# Altium integrated library STC.IntLib: 85 symbols (part 1 of 2)
Pins are listed as number, name and electrical type; pins without a type are passive.

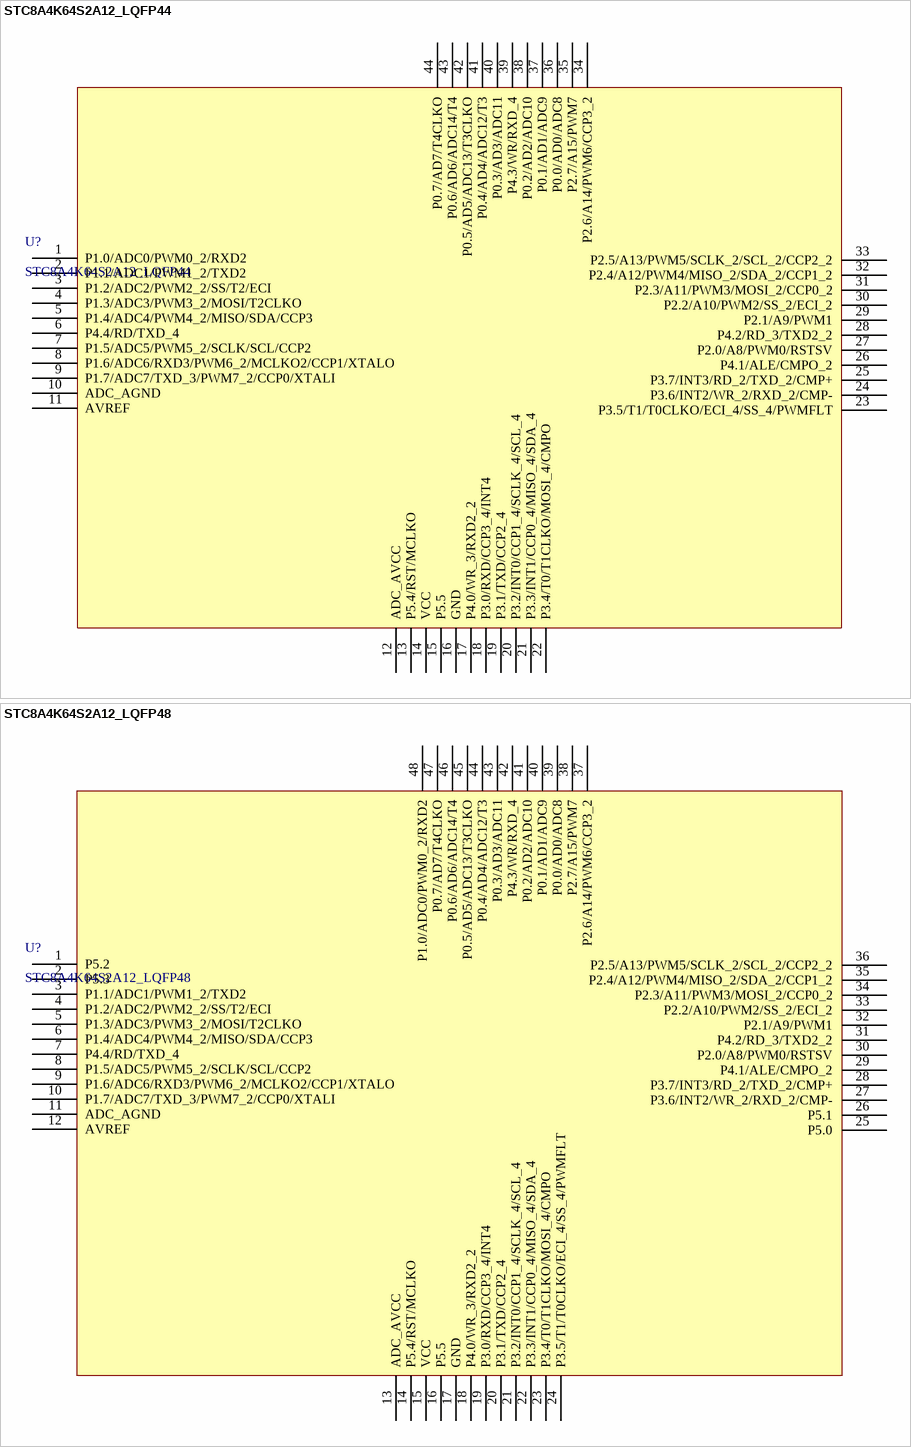
[diagram p0: symbols STC8A4K64S2A12_LQFP44 to STC8A4K64S2A12_LQFP48]

## STC8A4K64S2A12_LQFP44
designator U?
footprint LQFP44
footprint PQFP44
pins: 1 P1.0/ADC0/PWM0_2/RXD2, 2 P1.1/ADC1/PWM1_2/TXD2, 3 P1.2/ADC2/PWM2_2/SS/T2/ECI, 4 P1.3/ADC3/PWM3_2/MOSI/T2CLKO, 5 P1.4/ADC4/PWM4_2/MISO/SDA/CCP3, 6 P4.4/RD/TXD_4, 7 P1.5/ADC5/PWM5_2/SCLK/SCL/CCP2, 8 P1.6/ADC6/RXD3/PWM6_2/MCLKO2/CCP1/XTALO, 9 P1.7/ADC7/TXD_3/PWM7_2/CCP0/XTALI, 10 ADC_AGND, 11 AVREF, 12 ADC_AVCC, 13 P5.4/RST/MCLKO, 14 VCC, 15 P5.5, 16 GND, 17 P4.0/WR_3/RXD2_2, 18 P3.0/RXD/CCP3_4/INT4, 19 P3.1/TXD/CCP2_4, 20 P3.2/INT0/CCP1_4/SCLK_4/SCL_4, 21 P3.3/INT1/CCP0_4/MISO_4/SDA_4, 22 P3.4/T0/T1CLKO/MOSI_4/CMPO, 23 P3.5/T1/T0CLKO/ECI_4/SS_4/PWMFLT, 24 P3.6/INT2/WR_2/RXD_2/CMP-, 25 P3.7/INT3/RD_2/TXD_2/CMP+, 26 P4.1/ALE/CMPO_2, 27 P2.0/A8/PWM0/RSTSV, 28 P4.2/RD_3/TXD2_2, 29 P2.1/A9/PWM1, 30 P2.2/A10/PWM2/SS_2/ECI_2, 31 P2.3/A11/PWM3/MOSI_2/CCP0_2, 32 P2.4/A12/PWM4/MISO_2/SDA_2/CCP1_2, 33 P2.5/A13/PWM5/SCLK_2/SCL_2/CCP2_2, 34 P2.6/A14/PWM6/CCP3_2, 35 P2.7/A15/PWM7, 36 P0.0/AD0/ADC8, 37 P0.1/AD1/ADC9, 38 P0.2/AD2/ADC10, 39 P4.3/WR/RXD_4, 40 P0.3/AD3/ADC11, 41 P0.4/AD4/ADC12/T3, 42 P0.5/AD5/ADC13/T3CLKO, 43 P0.6/AD6/ADC14/T4, 44 P0.7/AD7/T4CLKO

## STC8A4K64S2A12_LQFP48
designator U?
footprint LQFP48
pins: 1 P5.2, 2 P5.3, 3 P1.1/ADC1/PWM1_2/TXD2, 4 P1.2/ADC2/PWM2_2/SS/T2/ECI, 5 P1.3/ADC3/PWM3_2/MOSI/T2CLKO, 6 P1.4/ADC4/PWM4_2/MISO/SDA/CCP3, 7 P4.4/RD/TXD_4, 8 P1.5/ADC5/PWM5_2/SCLK/SCL/CCP2, 9 P1.6/ADC6/RXD3/PWM6_2/MCLKO2/CCP1/XTALO, 10 P1.7/ADC7/TXD_3/PWM7_2/CCP0/XTALI, 11 ADC_AGND, 12 AVREF, 13 ADC_AVCC, 14 P5.4/RST/MCLKO, 15 VCC, 16 P5.5, 17 GND, 18 P4.0/WR_3/RXD2_2, 19 P3.0/RXD/CCP3_4/INT4, 20 P3.1/TXD/CCP2_4, 21 P3.2/INT0/CCP1_4/SCLK_4/SCL_4, 22 P3.3/INT1/CCP0_4/MISO_4/SDA_4, 23 P3.4/T0/T1CLKO/MOSI_4/CMPO, 24 P3.5/T1/T0CLKO/ECI_4/SS_4/PWMFLT, 25 P5.0, 26 P5.1, 27 P3.6/INT2/WR_2/RXD_2/CMP-, 28 P3.7/INT3/RD_2/TXD_2/CMP+, 29 P4.1/ALE/CMPO_2, 30 P2.0/A8/PWM0/RSTSV, 31 P4.2/RD_3/TXD2_2, 32 P2.1/A9/PWM1, 33 P2.2/A10/PWM2/SS_2/ECI_2, 34 P2.3/A11/PWM3/MOSI_2/CCP0_2, 35 P2.4/A12/PWM4/MISO_2/SDA_2/CCP1_2, 36 P2.5/A13/PWM5/SCLK_2/SCL_2/CCP2_2, 37 P2.6/A14/PWM6/CCP3_2, 38 P2.7/A15/PWM7, 39 P0.0/AD0/ADC8, 40 P0.1/AD1/ADC9, 41 P0.2/AD2/ADC10, 42 P4.3/WR/RXD_4, 43 P0.3/AD3/ADC11, 44 P0.4/AD4/ADC12/T3, 45 P0.5/AD5/ADC13/T3CLKO, 46 P0.6/AD6/ADC14/T4, 47 P0.7/AD7/T4CLKO, 48 P1.0/ADC0/PWM0_2/RXD2

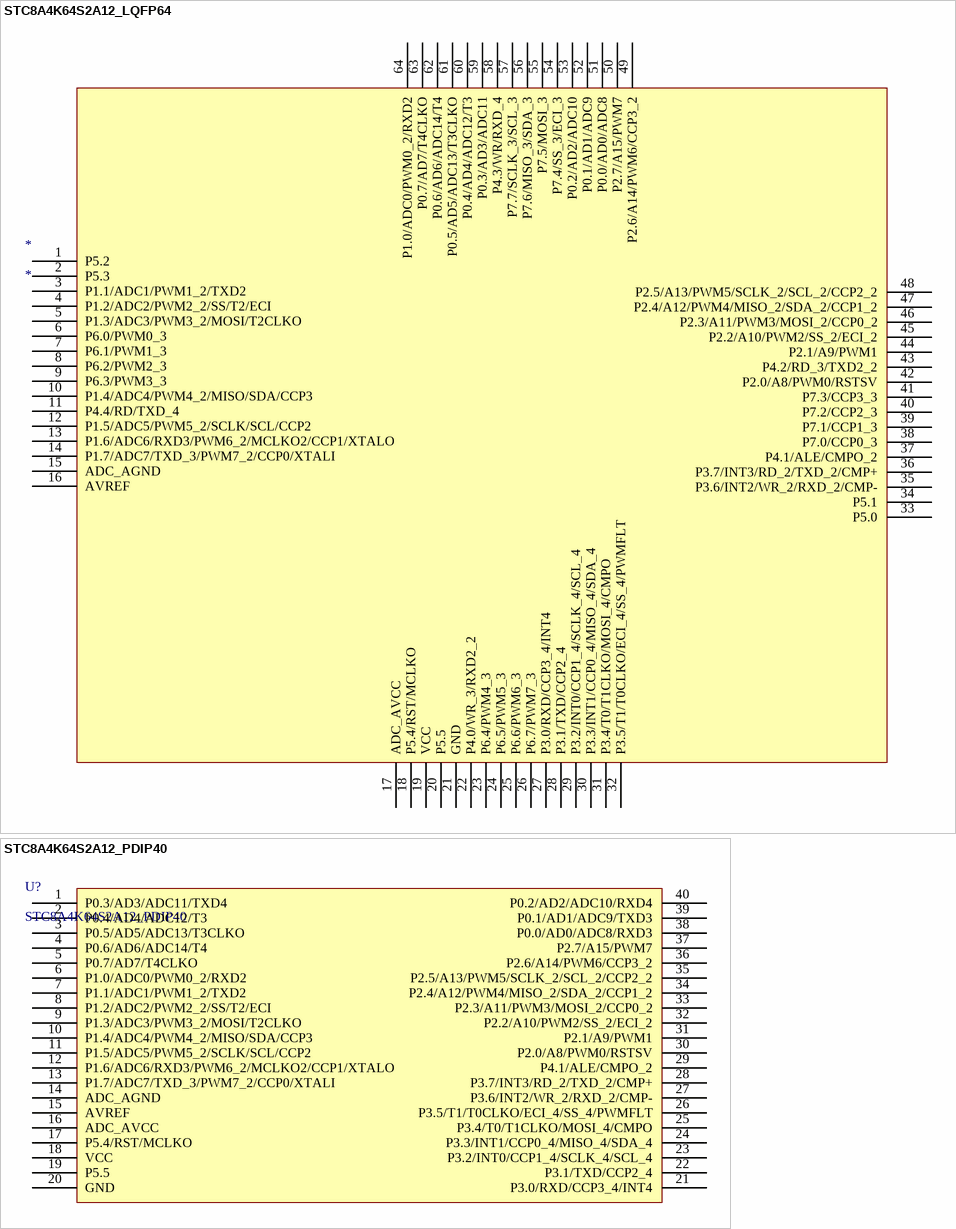
[diagram p1: symbols STC8A4K64S2A12_LQFP64 to STC8A4K64S2A12_PDIP40]

## STC8A4K64S2A12_LQFP64
designator *
footprint LQFP64
pins: 1 P5.2, 2 P5.3, 3 P1.1/ADC1/PWM1_2/TXD2, 4 P1.2/ADC2/PWM2_2/SS/T2/ECI, 5 P1.3/ADC3/PWM3_2/MOSI/T2CLKO, 6 P6.0/PWM0_3, 7 P6.1/PWM1_3, 8 P6.2/PWM2_3, 9 P6.3/PWM3_3, 10 P1.4/ADC4/PWM4_2/MISO/SDA/CCP3, 11 P4.4/RD/TXD_4, 12 P1.5/ADC5/PWM5_2/SCLK/SCL/CCP2, 13 P1.6/ADC6/RXD3/PWM6_2/MCLKO2/CCP1/XTALO, 14 P1.7/ADC7/TXD_3/PWM7_2/CCP0/XTALI, 15 ADC_AGND, 16 AVREF, 17 ADC_AVCC, 18 P5.4/RST/MCLKO, 19 VCC, 20 P5.5, 21 GND, 22 P4.0/WR_3/RXD2_2, 23 P6.4/PWM4_3, 24 P6.5/PWM5_3, 25 P6.6/PWM6_3, 26 P6.7/PWM7_3, 27 P3.0/RXD/CCP3_4/INT4, 28 P3.1/TXD/CCP2_4, 29 P3.2/INT0/CCP1_4/SCLK_4/SCL_4, 30 P3.3/INT1/CCP0_4/MISO_4/SDA_4, 31 P3.4/T0/T1CLKO/MOSI_4/CMPO, 32 P3.5/T1/T0CLKO/ECI_4/SS_4/PWMFLT, 33 P5.0, 34 P5.1, 35 P3.6/INT2/WR_2/RXD_2/CMP-, 36 P3.7/INT3/RD_2/TXD_2/CMP+, 37 P4.1/ALE/CMPO_2, 38 P7.0/CCP0_3, 39 P7.1/CCP1_3, 40 P7.2/CCP2_3, 41 P7.3/CCP3_3, 42 P2.0/A8/PWM0/RSTSV, 43 P4.2/RD_3/TXD2_2, 44 P2.1/A9/PWM1, 45 P2.2/A10/PWM2/SS_2/ECI_2, 46 P2.3/A11/PWM3/MOSI_2/CCP0_2, 47 P2.4/A12/PWM4/MISO_2/SDA_2/CCP1_2, 48 P2.5/A13/PWM5/SCLK_2/SCL_2/CCP2_2, 49 P2.6/A14/PWM6/CCP3_2, 50 P2.7/A15/PWM7, 51 P0.0/AD0/ADC8, 52 P0.1/AD1/ADC9, 53 P0.2/AD2/ADC10, 54 P7.4/SS_3/ECI_3, 55 P7.5/MOSI_3, 56 P7.6/MISO_3/SDA_3, 57 P7.7/SCLK_3/SCL_3, 58 P4.3/WR/RXD_4, 59 P0.3/AD3/ADC11, 60 P0.4/AD4/ADC12/T3, 61 P0.5/AD5/ADC13/T3CLKO, 62 P0.6/AD6/ADC14/T4, 63 P0.7/AD7/T4CLKO, 64 P1.0/ADC0/PWM0_2/RXD2

## STC8A4K64S2A12_PDIP40
designator U?
footprint DIP40
pins: 1 P0.3/AD3/ADC11/TXD4, 2 P0.4/AD4/ADC12/T3, 3 P0.5/AD5/ADC13/T3CLKO, 4 P0.6/AD6/ADC14/T4, 5 P0.7/AD7/T4CLKO, 6 P1.0/ADC0/PWM0_2/RXD2, 7 P1.1/ADC1/PWM1_2/TXD2, 8 P1.2/ADC2/PWM2_2/SS/T2/ECI, 9 P1.3/ADC3/PWM3_2/MOSI/T2CLKO, 10 P1.4/ADC4/PWM4_2/MISO/SDA/CCP3, 11 P1.5/ADC5/PWM5_2/SCLK/SCL/CCP2, 12 P1.6/ADC6/RXD3/PWM6_2/MCLKO2/CCP1/XTALO, 13 P1.7/ADC7/TXD_3/PWM7_2/CCP0/XTALI, 14 ADC_AGND, 15 AVREF, 16 ADC_AVCC, 17 P5.4/RST/MCLKO, 18 VCC, 19 P5.5, 20 GND, 21 P3.0/RXD/CCP3_4/INT4, 22 P3.1/TXD/CCP2_4, 23 P3.2/INT0/CCP1_4/SCLK_4/SCL_4, 24 P3.3/INT1/CCP0_4/MISO_4/SDA_4, 25 P3.4/T0/T1CLKO/MOSI_4/CMPO, 26 P3.5/T1/T0CLKO/ECI_4/SS_4/PWMFLT, 27 P3.6/INT2/WR_2/RXD_2/CMP-, 28 P3.7/INT3/RD_2/TXD_2/CMP+, 29 P4.1/ALE/CMPO_2, 30 P2.0/A8/PWM0/RSTSV, 31 P2.1/A9/PWM1, 32 P2.2/A10/PWM2/SS_2/ECI_2, 33 P2.3/A11/PWM3/MOSI_2/CCP0_2, 34 P2.4/A12/PWM4/MISO_2/SDA_2/CCP1_2, 35 P2.5/A13/PWM5/SCLK_2/SCL_2/CCP2_2, 36 P2.6/A14/PWM6/CCP3_2, 37 P2.7/A15/PWM7, 38 P0.0/AD0/ADC8/RXD3, 39 P0.1/AD1/ADC9/TXD3, 40 P0.2/AD2/ADC10/RXD4

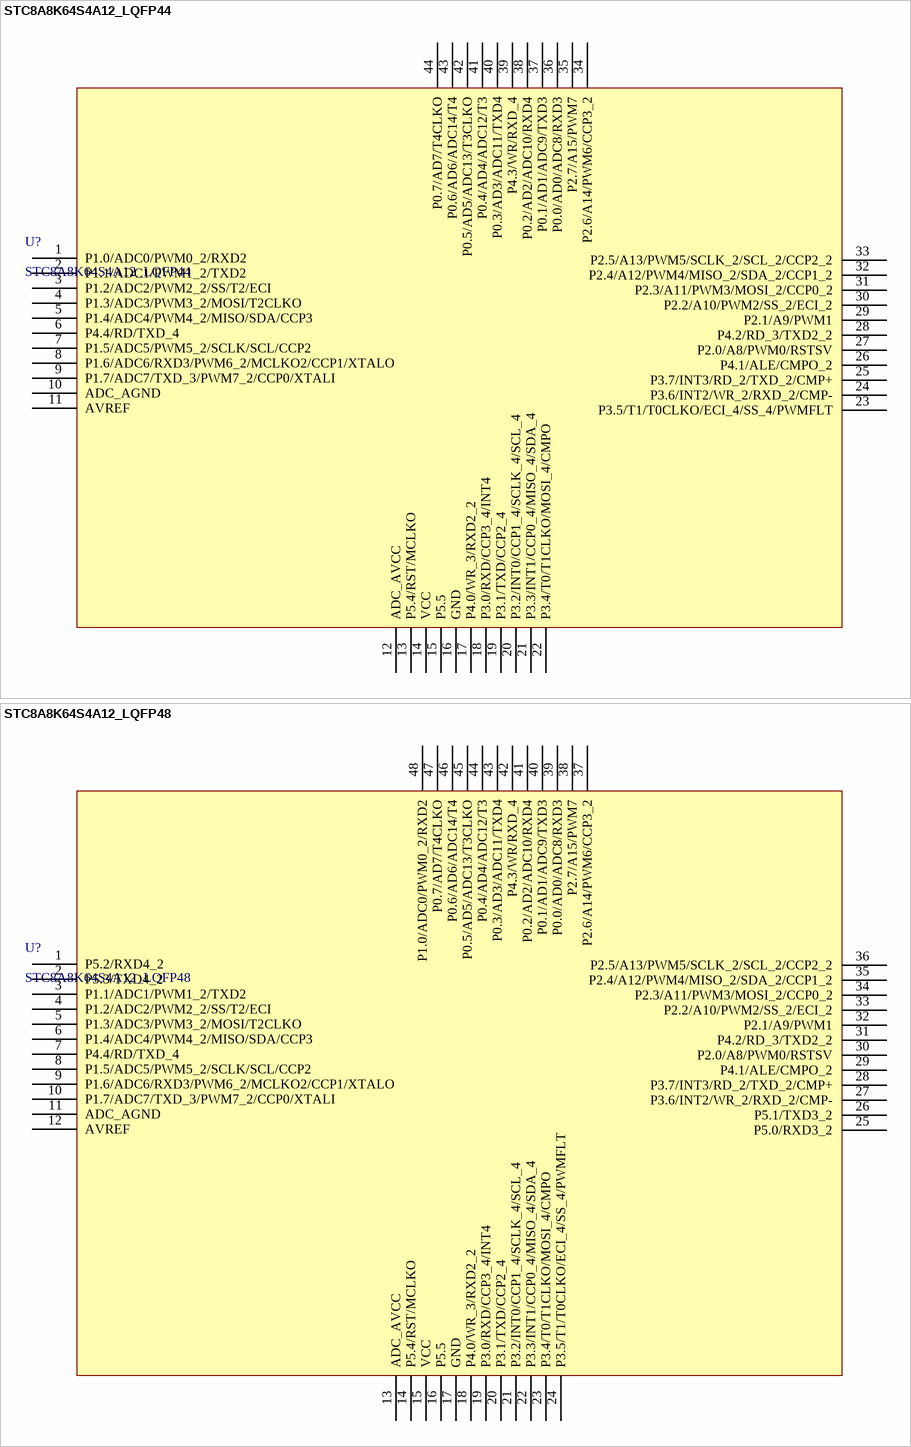
[diagram p2: symbols STC8A8K64S4A12_LQFP44 to STC8A8K64S4A12_LQFP48]

## STC8A8K64S4A12_LQFP44
designator U?
footprint LQFP44
footprint PQFP44
pins: 1 P1.0/ADC0/PWM0_2/RXD2, 2 P1.1/ADC1/PWM1_2/TXD2, 3 P1.2/ADC2/PWM2_2/SS/T2/ECI, 4 P1.3/ADC3/PWM3_2/MOSI/T2CLKO, 5 P1.4/ADC4/PWM4_2/MISO/SDA/CCP3, 6 P4.4/RD/TXD_4, 7 P1.5/ADC5/PWM5_2/SCLK/SCL/CCP2, 8 P1.6/ADC6/RXD3/PWM6_2/MCLKO2/CCP1/XTALO, 9 P1.7/ADC7/TXD_3/PWM7_2/CCP0/XTALI, 10 ADC_AGND, 11 AVREF, 12 ADC_AVCC, 13 P5.4/RST/MCLKO, 14 VCC, 15 P5.5, 16 GND, 17 P4.0/WR_3/RXD2_2, 18 P3.0/RXD/CCP3_4/INT4, 19 P3.1/TXD/CCP2_4, 20 P3.2/INT0/CCP1_4/SCLK_4/SCL_4, 21 P3.3/INT1/CCP0_4/MISO_4/SDA_4, 22 P3.4/T0/T1CLKO/MOSI_4/CMPO, 23 P3.5/T1/T0CLKO/ECI_4/SS_4/PWMFLT, 24 P3.6/INT2/WR_2/RXD_2/CMP-, 25 P3.7/INT3/RD_2/TXD_2/CMP+, 26 P4.1/ALE/CMPO_2, 27 P2.0/A8/PWM0/RSTSV, 28 P4.2/RD_3/TXD2_2, 29 P2.1/A9/PWM1, 30 P2.2/A10/PWM2/SS_2/ECI_2, 31 P2.3/A11/PWM3/MOSI_2/CCP0_2, 32 P2.4/A12/PWM4/MISO_2/SDA_2/CCP1_2, 33 P2.5/A13/PWM5/SCLK_2/SCL_2/CCP2_2, 34 P2.6/A14/PWM6/CCP3_2, 35 P2.7/A15/PWM7, 36 P0.0/AD0/ADC8/RXD3, 37 P0.1/AD1/ADC9/TXD3, 38 P0.2/AD2/ADC10/RXD4, 39 P4.3/WR/RXD_4, 40 P0.3/AD3/ADC11/TXD4, 41 P0.4/AD4/ADC12/T3, 42 P0.5/AD5/ADC13/T3CLKO, 43 P0.6/AD6/ADC14/T4, 44 P0.7/AD7/T4CLKO

## STC8A8K64S4A12_LQFP48
designator U?
footprint LQFP48
pins: 1 P5.2/RXD4_2, 2 P5.3/TXD4_2, 3 P1.1/ADC1/PWM1_2/TXD2, 4 P1.2/ADC2/PWM2_2/SS/T2/ECI, 5 P1.3/ADC3/PWM3_2/MOSI/T2CLKO, 6 P1.4/ADC4/PWM4_2/MISO/SDA/CCP3, 7 P4.4/RD/TXD_4, 8 P1.5/ADC5/PWM5_2/SCLK/SCL/CCP2, 9 P1.6/ADC6/RXD3/PWM6_2/MCLKO2/CCP1/XTALO, 10 P1.7/ADC7/TXD_3/PWM7_2/CCP0/XTALI, 11 ADC_AGND, 12 AVREF, 13 ADC_AVCC, 14 P5.4/RST/MCLKO, 15 VCC, 16 P5.5, 17 GND, 18 P4.0/WR_3/RXD2_2, 19 P3.0/RXD/CCP3_4/INT4, 20 P3.1/TXD/CCP2_4, 21 P3.2/INT0/CCP1_4/SCLK_4/SCL_4, 22 P3.3/INT1/CCP0_4/MISO_4/SDA_4, 23 P3.4/T0/T1CLKO/MOSI_4/CMPO, 24 P3.5/T1/T0CLKO/ECI_4/SS_4/PWMFLT, 25 P5.0/RXD3_2, 26 P5.1/TXD3_2, 27 P3.6/INT2/WR_2/RXD_2/CMP-, 28 P3.7/INT3/RD_2/TXD_2/CMP+, 29 P4.1/ALE/CMPO_2, 30 P2.0/A8/PWM0/RSTSV, 31 P4.2/RD_3/TXD2_2, 32 P2.1/A9/PWM1, 33 P2.2/A10/PWM2/SS_2/ECI_2, 34 P2.3/A11/PWM3/MOSI_2/CCP0_2, 35 P2.4/A12/PWM4/MISO_2/SDA_2/CCP1_2, 36 P2.5/A13/PWM5/SCLK_2/SCL_2/CCP2_2, 37 P2.6/A14/PWM6/CCP3_2, 38 P2.7/A15/PWM7, 39 P0.0/AD0/ADC8/RXD3, 40 P0.1/AD1/ADC9/TXD3, 41 P0.2/AD2/ADC10/RXD4, 42 P4.3/WR/RXD_4, 43 P0.3/AD3/ADC11/TXD4, 44 P0.4/AD4/ADC12/T3, 45 P0.5/AD5/ADC13/T3CLKO, 46 P0.6/AD6/ADC14/T4, 47 P0.7/AD7/T4CLKO, 48 P1.0/ADC0/PWM0_2/RXD2

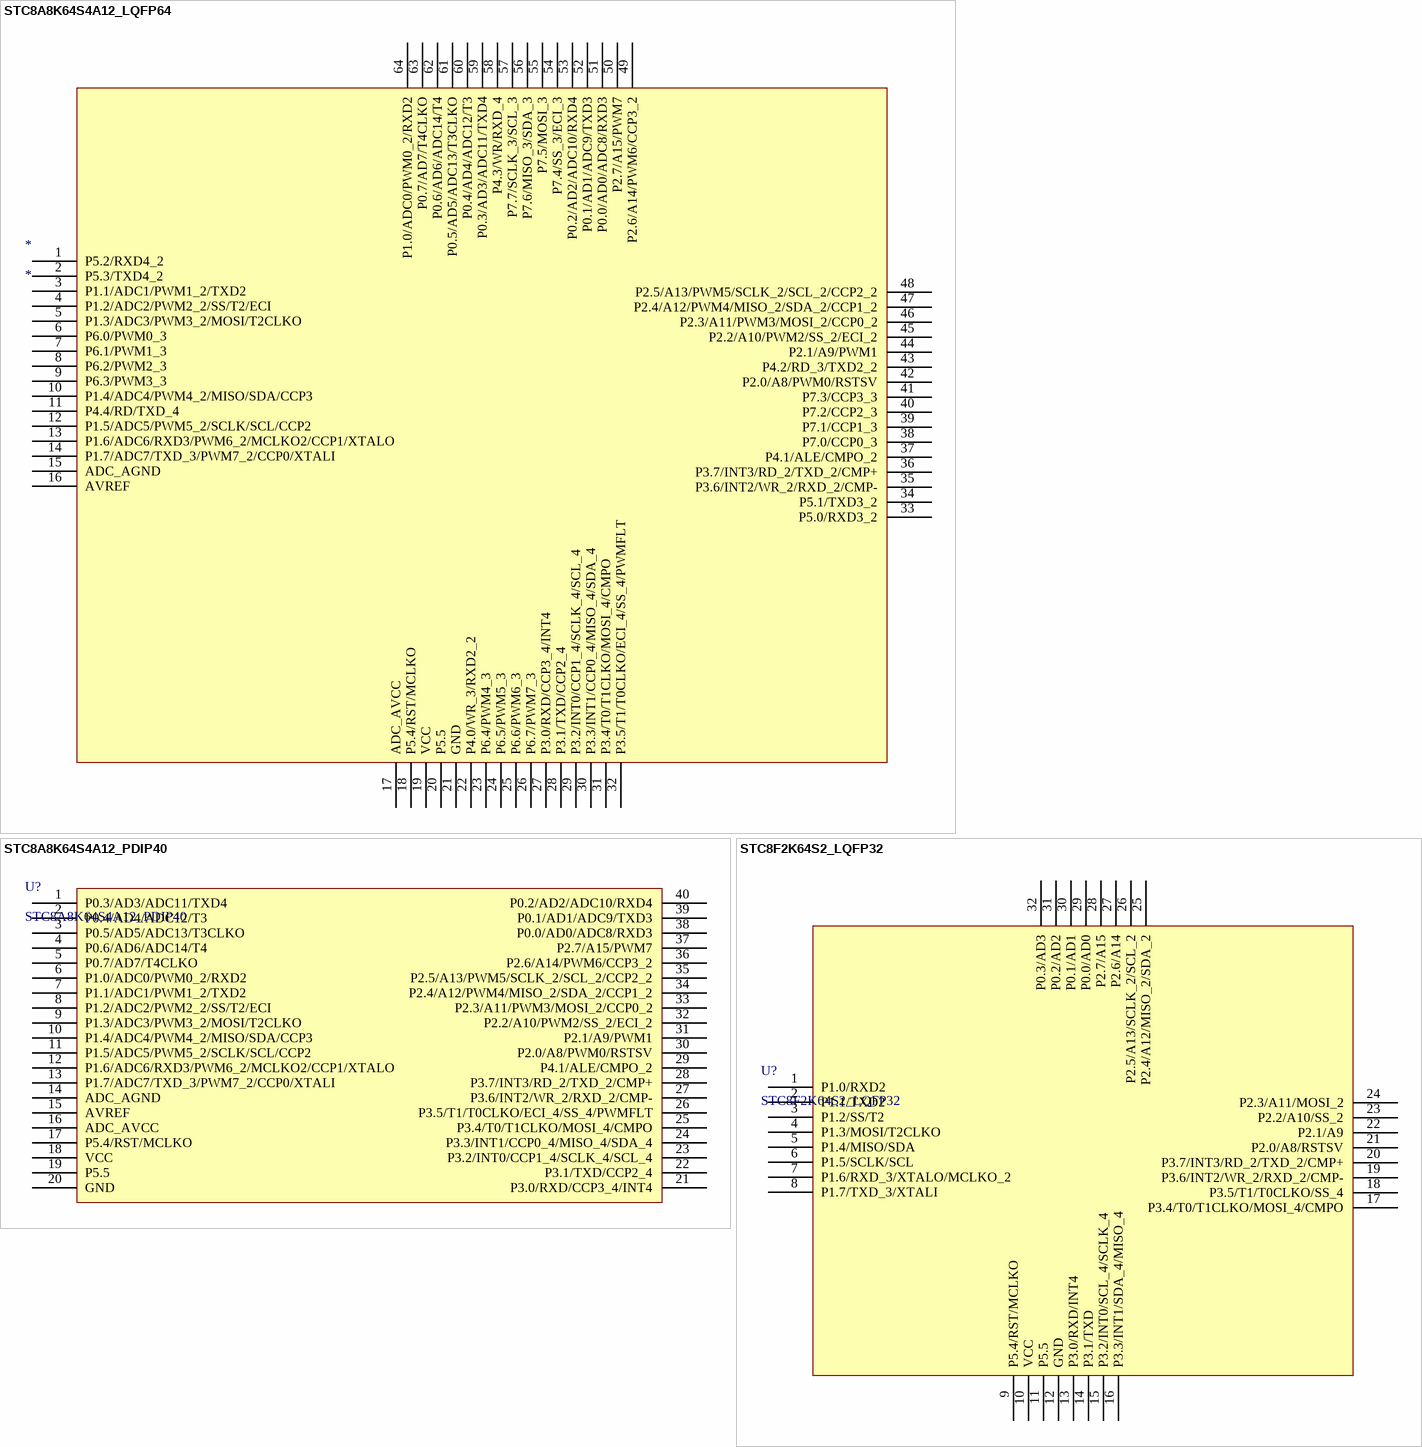
[diagram p3: symbols STC8A8K64S4A12_LQFP64 to STC8F2K64S2_LQFP32]

## STC8A8K64S4A12_LQFP64
designator *
footprint LQFP64
pins: 1 P5.2/RXD4_2, 2 P5.3/TXD4_2, 3 P1.1/ADC1/PWM1_2/TXD2, 4 P1.2/ADC2/PWM2_2/SS/T2/ECI, 5 P1.3/ADC3/PWM3_2/MOSI/T2CLKO, 6 P6.0/PWM0_3, 7 P6.1/PWM1_3, 8 P6.2/PWM2_3, 9 P6.3/PWM3_3, 10 P1.4/ADC4/PWM4_2/MISO/SDA/CCP3, 11 P4.4/RD/TXD_4, 12 P1.5/ADC5/PWM5_2/SCLK/SCL/CCP2, 13 P1.6/ADC6/RXD3/PWM6_2/MCLKO2/CCP1/XTALO, 14 P1.7/ADC7/TXD_3/PWM7_2/CCP0/XTALI, 15 ADC_AGND, 16 AVREF, 17 ADC_AVCC, 18 P5.4/RST/MCLKO, 19 VCC, 20 P5.5, 21 GND, 22 P4.0/WR_3/RXD2_2, 23 P6.4/PWM4_3, 24 P6.5/PWM5_3, 25 P6.6/PWM6_3, 26 P6.7/PWM7_3, 27 P3.0/RXD/CCP3_4/INT4, 28 P3.1/TXD/CCP2_4, 29 P3.2/INT0/CCP1_4/SCLK_4/SCL_4, 30 P3.3/INT1/CCP0_4/MISO_4/SDA_4, 31 P3.4/T0/T1CLKO/MOSI_4/CMPO, 32 P3.5/T1/T0CLKO/ECI_4/SS_4/PWMFLT, 33 P5.0/RXD3_2, 34 P5.1/TXD3_2, 35 P3.6/INT2/WR_2/RXD_2/CMP-, 36 P3.7/INT3/RD_2/TXD_2/CMP+, 37 P4.1/ALE/CMPO_2, 38 P7.0/CCP0_3, 39 P7.1/CCP1_3, 40 P7.2/CCP2_3, 41 P7.3/CCP3_3, 42 P2.0/A8/PWM0/RSTSV, 43 P4.2/RD_3/TXD2_2, 44 P2.1/A9/PWM1, 45 P2.2/A10/PWM2/SS_2/ECI_2, 46 P2.3/A11/PWM3/MOSI_2/CCP0_2, 47 P2.4/A12/PWM4/MISO_2/SDA_2/CCP1_2, 48 P2.5/A13/PWM5/SCLK_2/SCL_2/CCP2_2, 49 P2.6/A14/PWM6/CCP3_2, 50 P2.7/A15/PWM7, 51 P0.0/AD0/ADC8/RXD3, 52 P0.1/AD1/ADC9/TXD3, 53 P0.2/AD2/ADC10/RXD4, 54 P7.4/SS_3/ECI_3, 55 P7.5/MOSI_3, 56 P7.6/MISO_3/SDA_3, 57 P7.7/SCLK_3/SCL_3, 58 P4.3/WR/RXD_4, 59 P0.3/AD3/ADC11/TXD4, 60 P0.4/AD4/ADC12/T3, 61 P0.5/AD5/ADC13/T3CLKO, 62 P0.6/AD6/ADC14/T4, 63 P0.7/AD7/T4CLKO, 64 P1.0/ADC0/PWM0_2/RXD2

## STC8A8K64S4A12_PDIP40
designator U?
footprint DIP40
pins: 1 P0.3/AD3/ADC11/TXD4, 2 P0.4/AD4/ADC12/T3, 3 P0.5/AD5/ADC13/T3CLKO, 4 P0.6/AD6/ADC14/T4, 5 P0.7/AD7/T4CLKO, 6 P1.0/ADC0/PWM0_2/RXD2, 7 P1.1/ADC1/PWM1_2/TXD2, 8 P1.2/ADC2/PWM2_2/SS/T2/ECI, 9 P1.3/ADC3/PWM3_2/MOSI/T2CLKO, 10 P1.4/ADC4/PWM4_2/MISO/SDA/CCP3, 11 P1.5/ADC5/PWM5_2/SCLK/SCL/CCP2, 12 P1.6/ADC6/RXD3/PWM6_2/MCLKO2/CCP1/XTALO, 13 P1.7/ADC7/TXD_3/PWM7_2/CCP0/XTALI, 14 ADC_AGND, 15 AVREF, 16 ADC_AVCC, 17 P5.4/RST/MCLKO, 18 VCC, 19 P5.5, 20 GND, 21 P3.0/RXD/CCP3_4/INT4, 22 P3.1/TXD/CCP2_4, 23 P3.2/INT0/CCP1_4/SCLK_4/SCL_4, 24 P3.3/INT1/CCP0_4/MISO_4/SDA_4, 25 P3.4/T0/T1CLKO/MOSI_4/CMPO, 26 P3.5/T1/T0CLKO/ECI_4/SS_4/PWMFLT, 27 P3.6/INT2/WR_2/RXD_2/CMP-, 28 P3.7/INT3/RD_2/TXD_2/CMP+, 29 P4.1/ALE/CMPO_2, 30 P2.0/A8/PWM0/RSTSV, 31 P2.1/A9/PWM1, 32 P2.2/A10/PWM2/SS_2/ECI_2, 33 P2.3/A11/PWM3/MOSI_2/CCP0_2, 34 P2.4/A12/PWM4/MISO_2/SDA_2/CCP1_2, 35 P2.5/A13/PWM5/SCLK_2/SCL_2/CCP2_2, 36 P2.6/A14/PWM6/CCP3_2, 37 P2.7/A15/PWM7, 38 P0.0/AD0/ADC8/RXD3, 39 P0.1/AD1/ADC9/TXD3, 40 P0.2/AD2/ADC10/RXD4

## STC8F2K64S2_LQFP32
designator U?
footprint LQFP32
pins: 1 P1.0/RXD2, 2 P1.1/TXD2, 3 P1.2/SS/T2, 4 P1.3/MOSI/T2CLKO, 5 P1.4/MISO/SDA, 6 P1.5/SCLK/SCL, 7 P1.6/RXD_3/XTALO/MCLKO_2, 8 P1.7/TXD_3/XTALI, 9 P5.4/RST/MCLKO, 10 VCC, 11 P5.5, 12 GND, 13 P3.0/RXD/INT4, 14 P3.1/TXD, 15 P3.2/INT0/SCL_4/SCLK_4, 16 P3.3/INT1/SDA_4/MISO_4, 17 P3.4/T0/T1CLKO/MOSI_4/CMPO, 18 P3.5/T1/T0CLKO/SS_4, 19 P3.6/INT2/WR_2/RXD_2/CMP-, 20 P3.7/INT3/RD_2/TXD_2/CMP+, 21 P2.0/A8/RSTSV, 22 P2.1/A9, 23 P2.2/A10/SS_2, 24 P2.3/A11/MOSI_2, 25 P2.4/A12/MISO_2/SDA_2, 26 P2.5/A13/SCLK_2/SCL_2, 27 P2.6/A14, 28 P2.7/A15, 29 P0.0/AD0, 30 P0.1/AD1, 31 P0.2/AD2, 32 P0.3/AD3

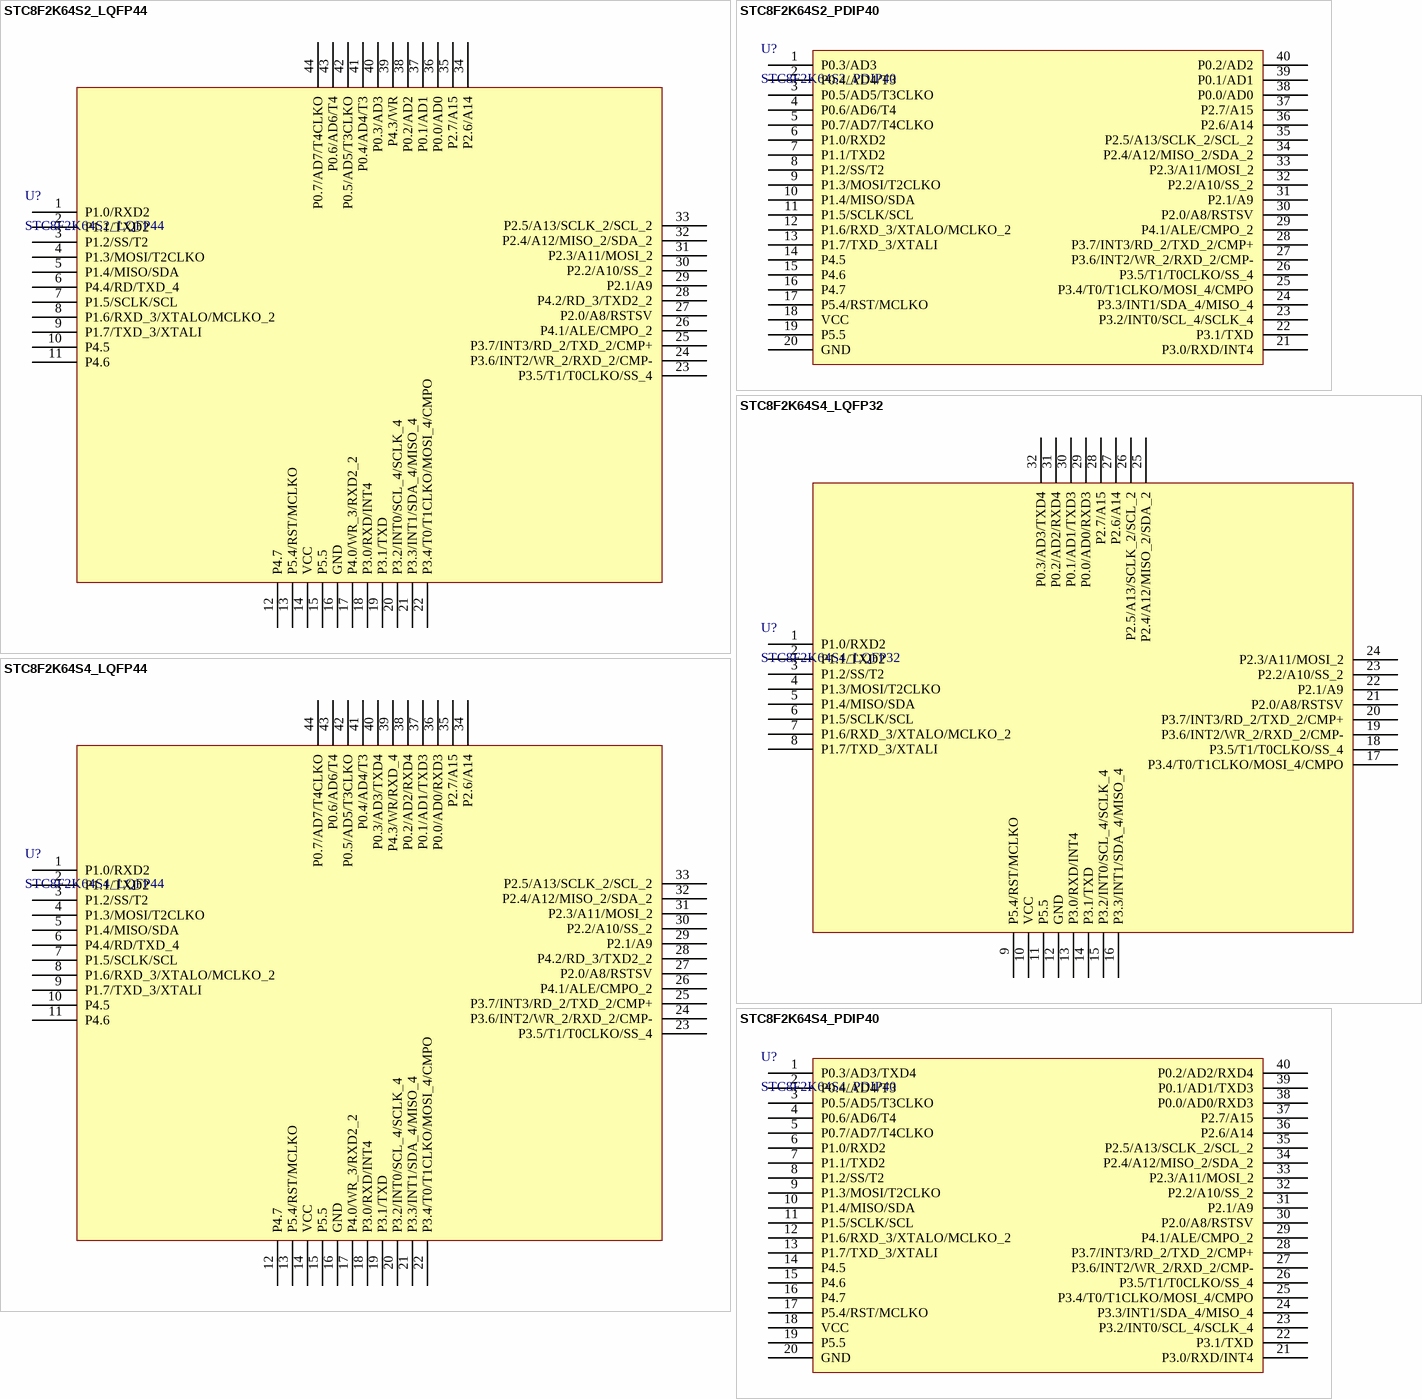
[diagram p4: symbols STC8F2K64S2_LQFP44 to STC8F2K64S4_PDIP40]

## STC8F2K64S2_LQFP44
designator U?
footprint LQFP44
footprint PQFP44
pins: 1 P1.0/RXD2, 2 P1.1/TXD2, 3 P1.2/SS/T2, 4 P1.3/MOSI/T2CLKO, 5 P1.4/MISO/SDA, 6 P4.4/RD/TXD_4, 7 P1.5/SCLK/SCL, 8 P1.6/RXD_3/XTALO/MCLKO_2, 9 P1.7/TXD_3/XTALI, 10 P4.5, 11 P4.6, 12 P4.7, 13 P5.4/RST/MCLKO, 14 VCC, 15 P5.5, 16 GND, 17 P4.0/WR_3/RXD2_2, 18 P3.0/RXD/INT4, 19 P3.1/TXD, 20 P3.2/INT0/SCL_4/SCLK_4, 21 P3.3/INT1/SDA_4/MISO_4, 22 P3.4/T0/T1CLKO/MOSI_4/CMPO, 23 P3.5/T1/T0CLKO/SS_4, 24 P3.6/INT2/WR_2/RXD_2/CMP-, 25 P3.7/INT3/RD_2/TXD_2/CMP+, 26 P4.1/ALE/CMPO_2, 27 P2.0/A8/RSTSV, 28 P4.2/RD_3/TXD2_2, 29 P2.1/A9, 30 P2.2/A10/SS_2, 31 P2.3/A11/MOSI_2, 32 P2.4/A12/MISO_2/SDA_2, 33 P2.5/A13/SCLK_2/SCL_2, 34 P2.6/A14, 35 P2.7/A15, 36 P0.0/AD0, 37 P0.1/AD1, 38 P0.2/AD2, 39 P4.3/WR, 40 P0.3/AD3, 41 P0.4/AD4/T3, 42 P0.5/AD5/T3CLKO, 43 P0.6/AD6/T4, 44 P0.7/AD7/T4CLKO

## STC8F2K64S2_PDIP40
designator U?
footprint DIP40
pins: 1 P0.3/AD3, 2 P0.4/AD4/T3, 3 P0.5/AD5/T3CLKO, 4 P0.6/AD6/T4, 5 P0.7/AD7/T4CLKO, 6 P1.0/RXD2, 7 P1.1/TXD2, 8 P1.2/SS/T2, 9 P1.3/MOSI/T2CLKO, 10 P1.4/MISO/SDA, 11 P1.5/SCLK/SCL, 12 P1.6/RXD_3/XTALO/MCLKO_2, 13 P1.7/TXD_3/XTALI, 14 P4.5, 15 P4.6, 16 P4.7, 17 P5.4/RST/MCLKO, 18 VCC, 19 P5.5, 20 GND, 21 P3.0/RXD/INT4, 22 P3.1/TXD, 23 P3.2/INT0/SCL_4/SCLK_4, 24 P3.3/INT1/SDA_4/MISO_4, 25 P3.4/T0/T1CLKO/MOSI_4/CMPO, 26 P3.5/T1/T0CLKO/SS_4, 27 P3.6/INT2/WR_2/RXD_2/CMP-, 28 P3.7/INT3/RD_2/TXD_2/CMP+, 29 P4.1/ALE/CMPO_2, 30 P2.0/A8/RSTSV, 31 P2.1/A9, 32 P2.2/A10/SS_2, 33 P2.3/A11/MOSI_2, 34 P2.4/A12/MISO_2/SDA_2, 35 P2.5/A13/SCLK_2/SCL_2, 36 P2.6/A14, 37 P2.7/A15, 38 P0.0/AD0, 39 P0.1/AD1, 40 P0.2/AD2

## STC8F2K64S4_LQFP32
designator U?
footprint LQFP32
pins: 1 P1.0/RXD2, 2 P1.1/TXD2, 3 P1.2/SS/T2, 4 P1.3/MOSI/T2CLKO, 5 P1.4/MISO/SDA, 6 P1.5/SCLK/SCL, 7 P1.6/RXD_3/XTALO/MCLKO_2, 8 P1.7/TXD_3/XTALI, 9 P5.4/RST/MCLKO, 10 VCC, 11 P5.5, 12 GND, 13 P3.0/RXD/INT4, 14 P3.1/TXD, 15 P3.2/INT0/SCL_4/SCLK_4, 16 P3.3/INT1/SDA_4/MISO_4, 17 P3.4/T0/T1CLKO/MOSI_4/CMPO, 18 P3.5/T1/T0CLKO/SS_4, 19 P3.6/INT2/WR_2/RXD_2/CMP-, 20 P3.7/INT3/RD_2/TXD_2/CMP+, 21 P2.0/A8/RSTSV, 22 P2.1/A9, 23 P2.2/A10/SS_2, 24 P2.3/A11/MOSI_2, 25 P2.4/A12/MISO_2/SDA_2, 26 P2.5/A13/SCLK_2/SCL_2, 27 P2.6/A14, 28 P2.7/A15, 29 P0.0/AD0/RXD3, 30 P0.1/AD1/TXD3, 31 P0.2/AD2/RXD4, 32 P0.3/AD3/TXD4

## STC8F2K64S4_LQFP44
designator U?
footprint LQFP44
footprint PQFP44
pins: 1 P1.0/RXD2, 2 P1.1/TXD2, 3 P1.2/SS/T2, 4 P1.3/MOSI/T2CLKO, 5 P1.4/MISO/SDA, 6 P4.4/RD/TXD_4, 7 P1.5/SCLK/SCL, 8 P1.6/RXD_3/XTALO/MCLKO_2, 9 P1.7/TXD_3/XTALI, 10 P4.5, 11 P4.6, 12 P4.7, 13 P5.4/RST/MCLKO, 14 VCC, 15 P5.5, 16 GND, 17 P4.0/WR_3/RXD2_2, 18 P3.0/RXD/INT4, 19 P3.1/TXD, 20 P3.2/INT0/SCL_4/SCLK_4, 21 P3.3/INT1/SDA_4/MISO_4, 22 P3.4/T0/T1CLKO/MOSI_4/CMPO, 23 P3.5/T1/T0CLKO/SS_4, 24 P3.6/INT2/WR_2/RXD_2/CMP-, 25 P3.7/INT3/RD_2/TXD_2/CMP+, 26 P4.1/ALE/CMPO_2, 27 P2.0/A8/RSTSV, 28 P4.2/RD_3/TXD2_2, 29 P2.1/A9, 30 P2.2/A10/SS_2, 31 P2.3/A11/MOSI_2, 32 P2.4/A12/MISO_2/SDA_2, 33 P2.5/A13/SCLK_2/SCL_2, 34 P2.6/A14, 35 P2.7/A15, 36 P0.0/AD0/RXD3, 37 P0.1/AD1/TXD3, 38 P0.2/AD2/RXD4, 39 P4.3/WR/RXD_4, 40 P0.3/AD3/TXD4, 41 P0.4/AD4/T3, 42 P0.5/AD5/T3CLKO, 43 P0.6/AD6/T4, 44 P0.7/AD7/T4CLKO

## STC8F2K64S4_PDIP40
designator U?
footprint DIP40
pins: 1 P0.3/AD3/TXD4, 2 P0.4/AD4/T3, 3 P0.5/AD5/T3CLKO, 4 P0.6/AD6/T4, 5 P0.7/AD7/T4CLKO, 6 P1.0/RXD2, 7 P1.1/TXD2, 8 P1.2/SS/T2, 9 P1.3/MOSI/T2CLKO, 10 P1.4/MISO/SDA, 11 P1.5/SCLK/SCL, 12 P1.6/RXD_3/XTALO/MCLKO_2, 13 P1.7/TXD_3/XTALI, 14 P4.5, 15 P4.6, 16 P4.7, 17 P5.4/RST/MCLKO, 18 VCC, 19 P5.5, 20 GND, 21 P3.0/RXD/INT4, 22 P3.1/TXD, 23 P3.2/INT0/SCL_4/SCLK_4, 24 P3.3/INT1/SDA_4/MISO_4, 25 P3.4/T0/T1CLKO/MOSI_4/CMPO, 26 P3.5/T1/T0CLKO/SS_4, 27 P3.6/INT2/WR_2/RXD_2/CMP-, 28 P3.7/INT3/RD_2/TXD_2/CMP+, 29 P4.1/ALE/CMPO_2, 30 P2.0/A8/RSTSV, 31 P2.1/A9, 32 P2.2/A10/SS_2, 33 P2.3/A11/MOSI_2, 34 P2.4/A12/MISO_2/SDA_2, 35 P2.5/A13/SCLK_2/SCL_2, 36 P2.6/A14, 37 P2.7/A15, 38 P0.0/AD0/RXD3, 39 P0.1/AD1/TXD3, 40 P0.2/AD2/RXD4

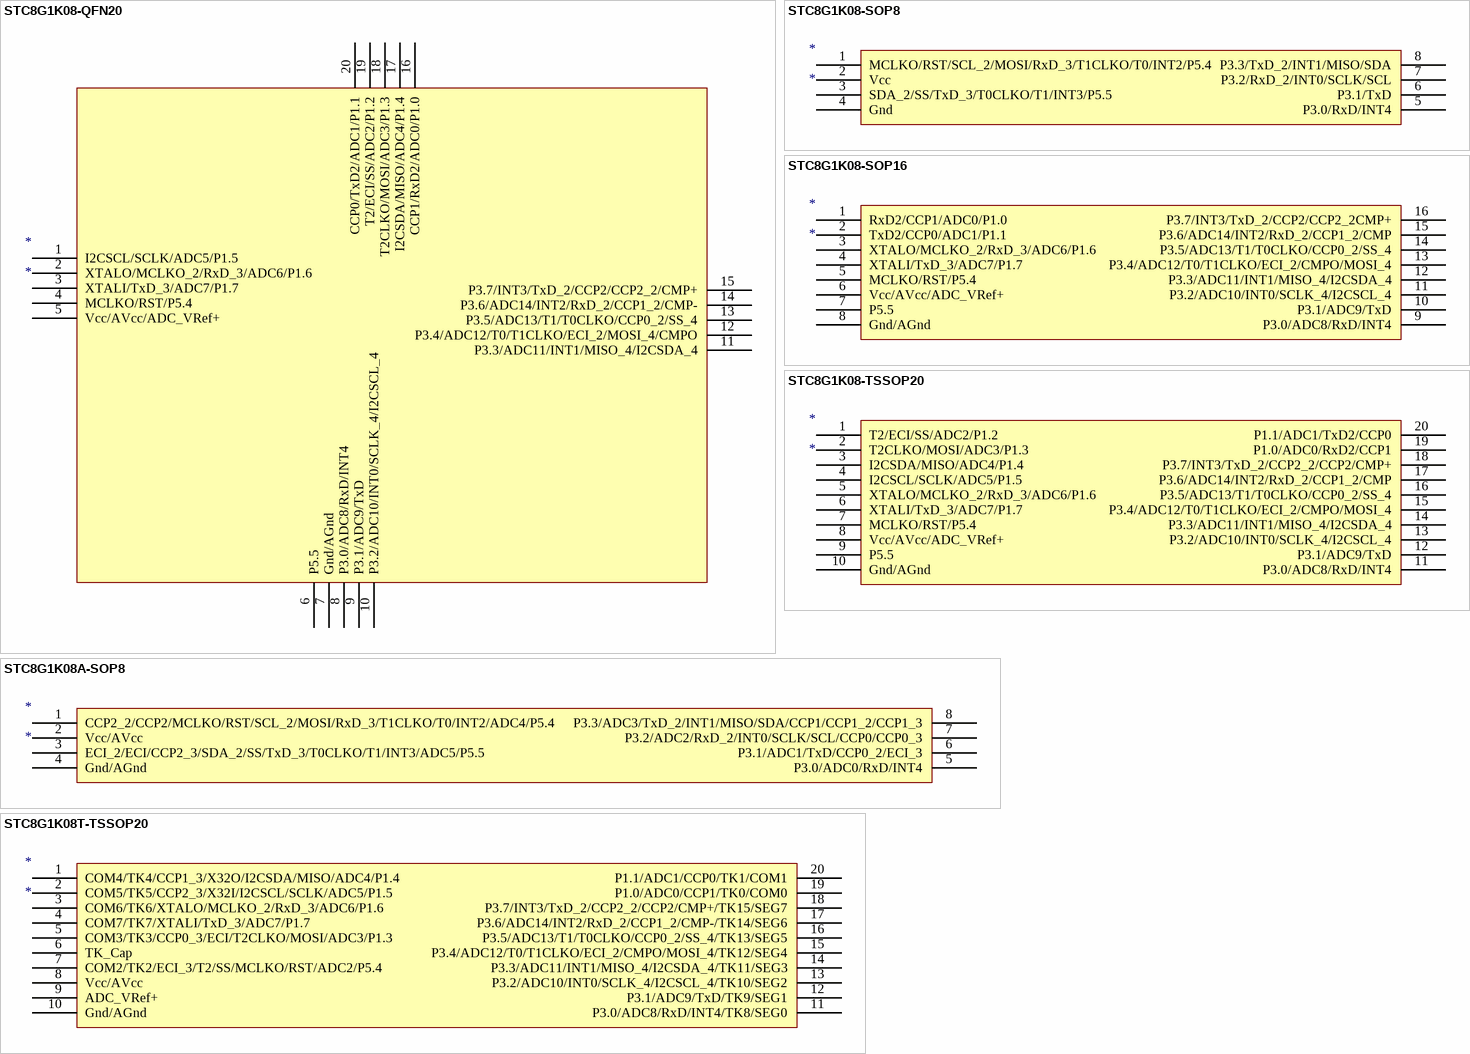
[diagram p5: symbols STC8G1K08-QFN20 to STC8G1K08T-TSSOP20]

## STC8G1K08-QFN20
designator *
footprint QFN20 (Footprint not found)
pins: 1 I2CSCL/SCLK/ADC5/P1.5, 2 XTALO/MCLKO_2/RxD_3/ADC6/P1.6, 3 XTALI/TxD_3/ADC7/P1.7, 4 MCLKO/RST/P5.4, 5 Vcc/AVcc/ADC_VRef+, 6 P5.5, 7 Gnd/AGnd, 8 P3.0/ADC8/RxD/INT4, 9 P3.1/ADC9/TxD, 10 P3.2/ADC10/INT0/SCLK_4/I2CSCL_4, 11 P3.3/ADC11/INT1/MISO_4/I2CSDA_4, 12 P3.4/ADC12/T0/T1CLKO/ECI_2/MOSI_4/CMPO, 13 P3.5/ADC13/T1/T0CLKO/CCP0_2/SS_4, 14 P3.6/ADC14/INT2/RxD_2/CCP1_2/CMP-, 15 P3.7/INT3/TxD_2/CCP2/CCP2_2/CMP+, 16 CCP1/RxD2/ADC0/P1.0, 17 I2CSDA/MISO/ADC4/P1.4, 18 T2CLKO/MOSI/ADC3/P1.3, 19 T2/ECI/SS/ADC2/P1.2, 20 CCP0/TxD2/ADC1/P1.1

## STC8G1K08-SOP8
designator *
footprint SOP8
pins: 1 MCLKO/RST/SCL_2/MOSI/RxD_3/T1CLKO/T0/INT2/P5.4, 2 Vcc, 3 SDA_2/SS/TxD_3/T0CLKO/T1/INT3/P5.5, 4 Gnd, 5 P3.0/RxD/INT4, 6 P3.1/TxD, 7 P3.2/RxD_2/INT0/SCLK/SCL, 8 P3.3/TxD_2/INT1/MISO/SDA

## STC8G1K08-SOP16
designator *
footprint SOP16
pins: 1 RxD2/CCP1/ADC0/P1.0, 2 TxD2/CCP0/ADC1/P1.1, 3 XTALO/MCLKO_2/RxD_3/ADC6/P1.6, 4 XTALI/TxD_3/ADC7/P1.7, 5 MCLKO/RST/P5.4, 6 Vcc/AVcc/ADC_VRef+, 7 P5.5, 8 Gnd/AGnd, 9 P3.0/ADC8/RxD/INT4, 10 P3.1/ADC9/TxD, 11 P3.2/ADC10/INT0/SCLK_4/I2CSCL_4, 12 P3.3/ADC11/INT1/MISO_4/I2CSDA_4, 13 P3.4/ADC12/T0/T1CLKO/ECI_2/CMPO/MOSI_4, 14 P3.5/ADC13/T1/T0CLKO/CCP0_2/SS_4, 15 P3.6/ADC14/INT2/RxD_2/CCP1_2/CMP, 16 P3.7/INT3/TxD_2/CCP2/CCP2_2CMP+

## STC8G1K08-TSSOP20
designator *
footprint TSSOP20
pins: 1 T2/ECI/SS/ADC2/P1.2, 2 T2CLKO/MOSI/ADC3/P1.3, 3 I2CSDA/MISO/ADC4/P1.4, 4 I2CSCL/SCLK/ADC5/P1.5, 5 XTALO/MCLKO_2/RxD_3/ADC6/P1.6, 6 XTALI/TxD_3/ADC7/P1.7, 7 MCLKO/RST/P5.4, 8 Vcc/AVcc/ADC_VRef+, 9 P5.5, 10 Gnd/AGnd, 11 P3.0/ADC8/RxD/INT4, 12 P3.1/ADC9/TxD, 13 P3.2/ADC10/INT0/SCLK_4/I2CSCL_4, 14 P3.3/ADC11/INT1/MISO_4/I2CSDA_4, 15 P3.4/ADC12/T0/T1CLKO/ECI_2/CMPO/MOSI_4, 16 P3.5/ADC13/T1/T0CLKO/CCP0_2/SS_4, 17 P3.6/ADC14/INT2/RxD_2/CCP1_2/CMP, 18 P3.7/INT3/TxD_2/CCP2_2/CCP2/CMP+, 19 P1.0/ADC0/RxD2/CCP1, 20 P1.1/ADC1/TxD2/CCP0

## STC8G1K08A-SOP8
designator *
footprint SOP8
pins: 1 CCP2_2/CCP2/MCLKO/RST/SCL_2/MOSI/RxD_3/T1CLKO/T0/INT2/ADC4/P5.4, 2 Vcc/AVcc, 3 ECI_2/ECI/CCP2_3/SDA_2/SS/TxD_3/T0CLKO/T1/INT3/ADC5/P5.5, 4 Gnd/AGnd, 5 P3.0/ADC0/RxD/INT4, 6 P3.1/ADC1/TxD/CCP0_2/ECI_3, 7 P3.2/ADC2/RxD_2/INT0/SCLK/SCL/CCP0/CCP0_3, 8 P3.3/ADC3/TxD_2/INT1/MISO/SDA/CCP1/CCP1_2/CCP1_3

## STC8G1K08T-TSSOP20
designator *
footprint TSSOP20
pins: 1 COM4/TK4/CCP1_3/X32O/I2CSDA/MISO/ADC4/P1.4, 2 COM5/TK5/CCP2_3/X32I/I2CSCL/SCLK/ADC5/P1.5, 3 COM6/TK6/XTALO/MCLKO_2/RxD_3/ADC6/P1.6, 4 COM7/TK7/XTALI/TxD_3/ADC7/P1.7, 5 COM3/TK3/CCP0_3/ECI/T2CLKO/MOSI/ADC3/P1.3, 6 TK_Cap, 7 COM2/TK2/ECI_3/T2/SS/MCLKO/RST/ADC2/P5.4, 8 Vcc/AVcc, 9 ADC_VRef+, 10 Gnd/AGnd, 11 P3.0/ADC8/RxD/INT4/TK8/SEG0, 12 P3.1/ADC9/TxD/TK9/SEG1, 13 P3.2/ADC10/INT0/SCLK_4/I2CSCL_4/TK10/SEG2, 14 P3.3/ADC11/INT1/MISO_4/I2CSDA_4/TK11/SEG3, 15 P3.4/ADC12/T0/T1CLKO/ECI_2/CMPO/MOSI_4/TK12/SEG4, 16 P3.5/ADC13/T1/T0CLKO/CCP0_2/SS_4/TK13/SEG5, 17 P3.6/ADC14/INT2/RxD_2/CCP1_2/CMP-/TK14/SEG6, 18 P3.7/INT3/TxD_2/CCP2_2/CCP2/CMP+/TK15/SEG7, 19 P1.0/ADC0/CCP1/TK0/COM0, 20 P1.1/ADC1/CCP0/TK1/COM1

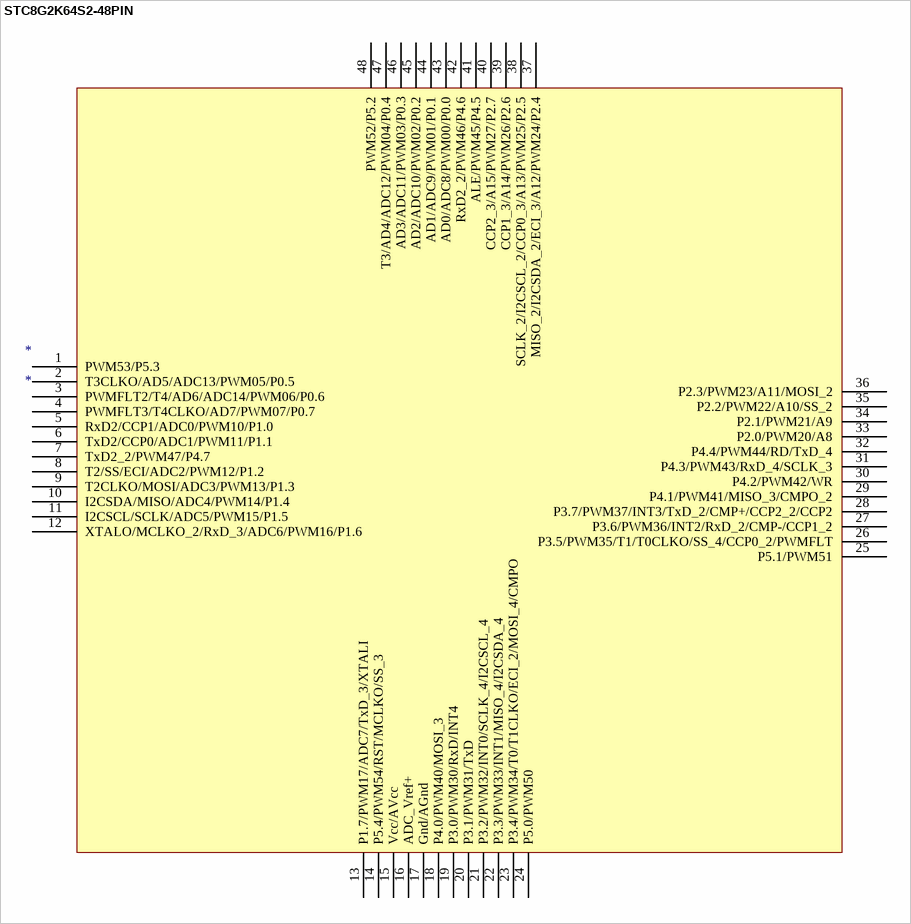
[diagram p6: symbol STC8G2K64S2-48PIN]

## STC8G2K64S2-48PIN
designator *
footprint LQFP48
footprint QFN48
pins: 1 PWM53/P5.3, 2 T3CLKO/AD5/ADC13/PWM05/P0.5, 3 PWMFLT2/T4/AD6/ADC14/PWM06/P0.6, 4 PWMFLT3/T4CLKO/AD7/PWM07/P0.7, 5 RxD2/CCP1/ADC0/PWM10/P1.0, 6 TxD2/CCP0/ADC1/PWM11/P1.1, 7 TxD2_2/PWM47/P4.7, 8 T2/SS/ECI/ADC2/PWM12/P1.2, 9 T2CLKO/MOSI/ADC3/PWM13/P1.3, 10 I2CSDA/MISO/ADC4/PWM14/P1.4, 11 I2CSCL/SCLK/ADC5/PWM15/P1.5, 12 XTALO/MCLKO_2/RxD_3/ADC6/PWM16/P1.6, 13 P1.7/PWM17/ADC7/TxD_3/XTALI, 14 P5.4/PWM54/RST/MCLKO/SS_3, 15 Vcc/AVcc, 16 ADC_Vref+, 17 Gnd/AGnd, 18 P4.0/PWM40/MOSI_3, 19 P3.0/PWM30/RxD/INT4, 20 P3.1/PWM31/TxD, 21 P3.2/PWM32/INT0/SCLK_4/I2CSCL_4, 22 P3.3/PWM33/INT1/MISO_4/I2CSDA_4, 23 P3.4/PWM34/T0/T1CLKO/ECI_2/MOSI_4/CMPO, 24 P5.0/PWM50, 25 P5.1/PWM51, 26 P3.5/PWM35/T1/T0CLKO/SS_4/CCP0_2/PWMFLT, 27 P3.6/PWM36/INT2/RxD_2/CMP-/CCP1_2, 28 P3.7/PWM37/INT3/TxD_2/CMP+/CCP2_2/CCP2, 29 P4.1/PWM41/MISO_3/CMPO_2, 30 P4.2/PWM42/WR, 31 P4.3/PWM43/RxD_4/SCLK_3, 32 P4.4/PWM44/RD/TxD_4, 33 P2.0/PWM20/A8, 34 P2.1/PWM21/A9, 35 P2.2/PWM22/A10/SS_2, 36 P2.3/PWM23/A11/MOSI_2, 37 MISO_2/I2CSDA_2/ECI_3/A12/PWM24/P2.4, 38 SCLK_2/I2CSCL_2/CCP0_3/A13/PWM25/P2.5, 39 CCP1_3/A14/PWM26/P2.6, 40 CCP2_3/A15/PWM27/P2.7, 41 ALE/PWM45/P4.5, 42 RxD2_2/PWM46/P4.6, 43 AD0/ADC8/PWM00/P0.0, 44 AD1/ADC9/PWM01/P0.1, 45 AD2/ADC10/PWM02/P0.2, 46 AD3/ADC11/PWM03/P0.3, 47 T3/AD4/ADC12/PWM04/P0.4, 48 PWM52/P5.2

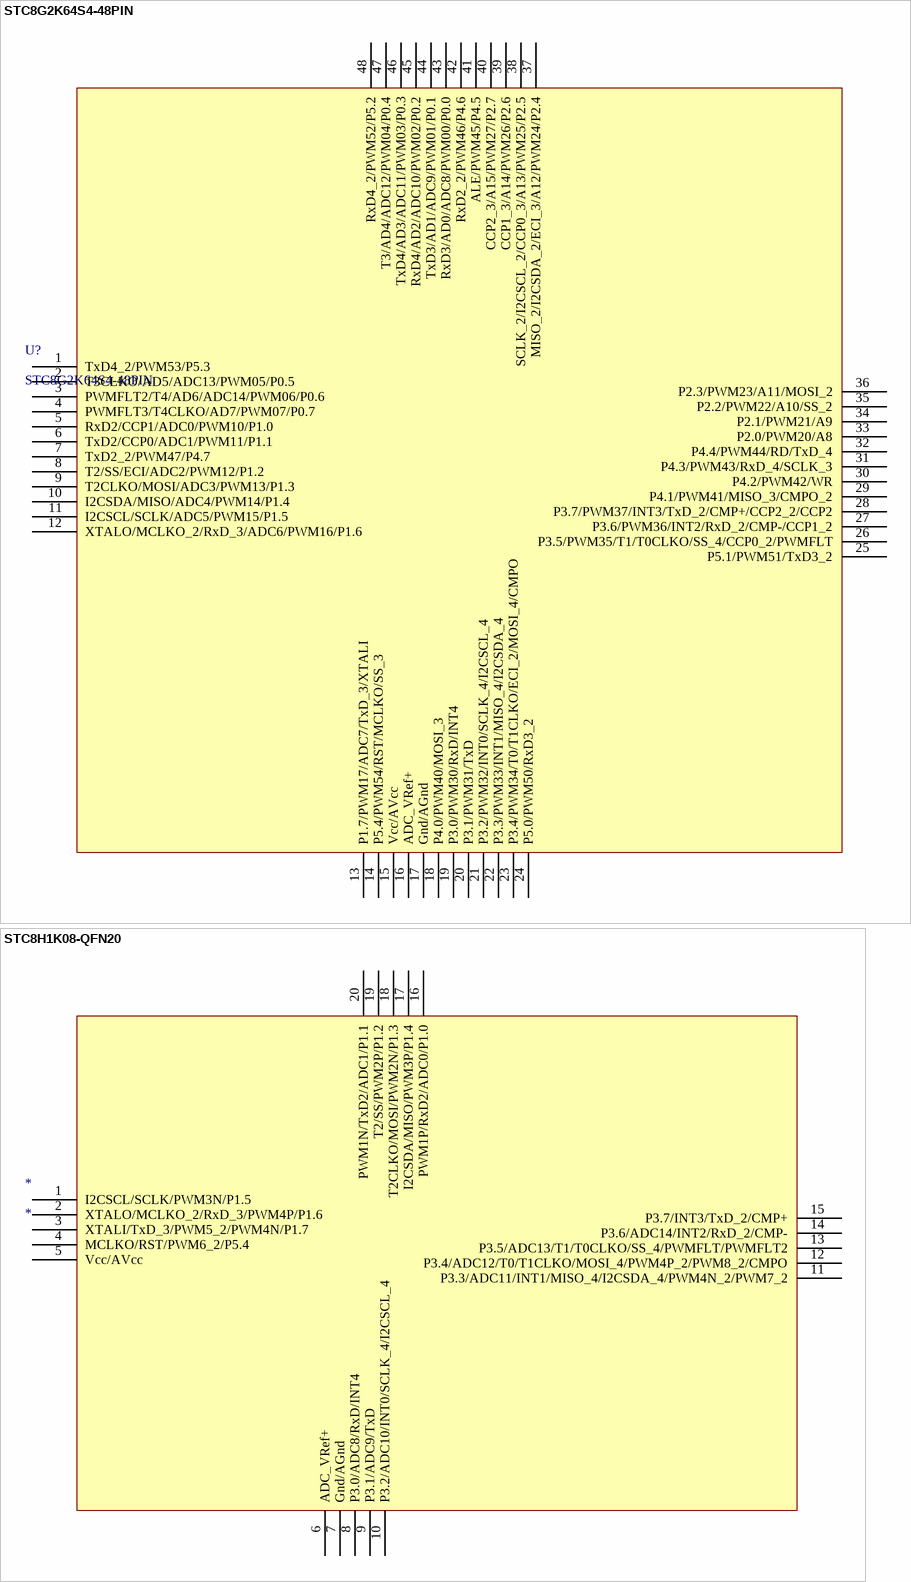
[diagram p7: symbols STC8G2K64S4-48PIN to STC8H1K08-QFN20]

## STC8G2K64S4-48PIN
designator U?
STC8G系列单片机  1T
footprint LQFP48
footprint QFN48
footprint LQFP48 7X7_N (48脚，体宽7x7mm，脚距0.5mm)
pins: 1 TxD4_2/PWM53/P5.3, 2 T3CLKO/AD5/ADC13/PWM05/P0.5, 3 PWMFLT2/T4/AD6/ADC14/PWM06/P0.6, 4 PWMFLT3/T4CLKO/AD7/PWM07/P0.7, 5 RxD2/CCP1/ADC0/PWM10/P1.0, 6 TxD2/CCP0/ADC1/PWM11/P1.1, 7 TxD2_2/PWM47/P4.7, 8 T2/SS/ECI/ADC2/PWM12/P1.2, 9 T2CLKO/MOSI/ADC3/PWM13/P1.3, 10 I2CSDA/MISO/ADC4/PWM14/P1.4, 11 I2CSCL/SCLK/ADC5/PWM15/P1.5, 12 XTALO/MCLKO_2/RxD_3/ADC6/PWM16/P1.6, 13 P1.7/PWM17/ADC7/TxD_3/XTALI, 14 P5.4/PWM54/RST/MCLKO/SS_3, 15 Vcc/AVcc, 16 ADC_VRef+, 17 Gnd/AGnd, 18 P4.0/PWM40/MOSI_3, 19 P3.0/PWM30/RxD/INT4, 20 P3.1/PWM31/TxD, 21 P3.2/PWM32/INT0/SCLK_4/I2CSCL_4, 22 P3.3/PWM33/INT1/MISO_4/I2CSDA_4, 23 P3.4/PWM34/T0/T1CLKO/ECI_2/MOSI_4/CMPO, 24 P5.0/PWM50/RxD3_2, 25 P5.1/PWM51/TxD3_2, 26 P3.5/PWM35/T1/T0CLKO/SS_4/CCP0_2/PWMFLT, 27 P3.6/PWM36/INT2/RxD_2/CMP-/CCP1_2, 28 P3.7/PWM37/INT3/TxD_2/CMP+/CCP2_2/CCP2, 29 P4.1/PWM41/MISO_3/CMPO_2, 30 P4.2/PWM42/WR, 31 P4.3/PWM43/RxD_4/SCLK_3, 32 P4.4/PWM44/RD/TxD_4, 33 P2.0/PWM20/A8, 34 P2.1/PWM21/A9, 35 P2.2/PWM22/A10/SS_2, 36 P2.3/PWM23/A11/MOSI_2, 37 MISO_2/I2CSDA_2/ECI_3/A12/PWM24/P2.4, 38 SCLK_2/I2CSCL_2/CCP0_3/A13/PWM25/P2.5, 39 CCP1_3/A14/PWM26/P2.6, 40 CCP2_3/A15/PWM27/P2.7, 41 ALE/PWM45/P4.5, 42 RxD2_2/PWM46/P4.6, 43 RxD3/AD0/ADC8/PWM00/P0.0, 44 TxD3/AD1/ADC9/PWM01/P0.1, 45 RxD4/AD2/ADC10/PWM02/P0.2, 46 TxD4/AD3/ADC11/PWM03/P0.3, 47 T3/AD4/ADC12/PWM04/P0.4, 48 RxD4_2/PWM52/P5.2

## STC8H1K08-QFN20
designator *
footprint QFN20 (Footprint not found)
pins: 1 I2CSCL/SCLK/PWM3N/P1.5, 2 XTALO/MCLKO_2/RxD_3/PWM4P/P1.6, 3 XTALI/TxD_3/PWM5_2/PWM4N/P1.7, 4 MCLKO/RST/PWM6_2/P5.4, 5 Vcc/AVcc, 6 ADC_VRef+, 7 Gnd/AGnd, 8 P3.0/ADC8/RxD/INT4, 9 P3.1/ADC9/TxD, 10 P3.2/ADC10/INT0/SCLK_4/I2CSCL_4, 11 P3.3/ADC11/INT1/MISO_4/I2CSDA_4/PWM4N_2/PWM7_2, 12 P3.4/ADC12/T0/T1CLKO/MOSI_4/PWM4P_2/PWM8_2/CMPO, 13 P3.5/ADC13/T1/T0CLKO/SS_4/PWMFLT/PWMFLT2, 14 P3.6/ADC14/INT2/RxD_2/CMP-, 15 P3.7/INT3/TxD_2/CMP+, 16 PWM1P/RxD2/ADC0/P1.0, 17 I2CSDA/MISO/PWM3P/P1.4, 18 T2CLKO/MOSI/PWM2N/P1.3, 19 T2/SS/PWM2P/P1.2, 20 PWM1N/TxD2/ADC1/P1.1

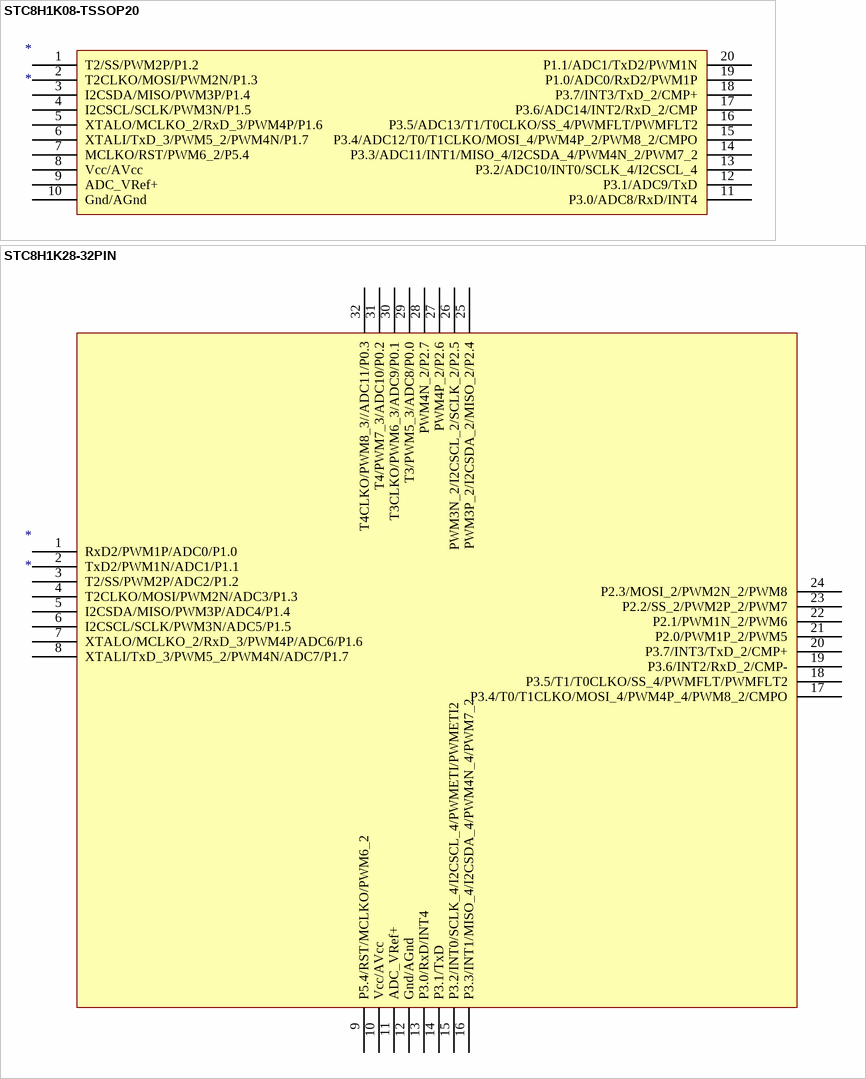
[diagram p8: symbols STC8H1K08-TSSOP20 to STC8H1K28-32PIN]

## STC8H1K08-TSSOP20
designator *
footprint TSSOP20
pins: 1 T2/SS/PWM2P/P1.2, 2 T2CLKO/MOSI/PWM2N/P1.3, 3 I2CSDA/MISO/PWM3P/P1.4, 4 I2CSCL/SCLK/PWM3N/P1.5, 5 XTALO/MCLKO_2/RxD_3/PWM4P/P1.6, 6 XTALI/TxD_3/PWM5_2/PWM4N/P1.7, 7 MCLKO/RST/PWM6_2/P5.4, 8 Vcc/AVcc, 9 ADC_VRef+, 10 Gnd/AGnd, 11 P3.0/ADC8/RxD/INT4, 12 P3.1/ADC9/TxD, 13 P3.2/ADC10/INT0/SCLK_4/I2CSCL_4, 14 P3.3/ADC11/INT1/MISO_4/I2CSDA_4/PWM4N_2/PWM7_2, 15 P3.4/ADC12/T0/T1CLKO/MOSI_4/PWM4P_2/PWM8_2/CMPO, 16 P3.5/ADC13/T1/T0CLKO/SS_4/PWMFLT/PWMFLT2, 17 P3.6/ADC14/INT2/RxD_2/CMP, 18 P3.7/INT3/TxD_2/CMP+, 19 P1.0/ADC0/RxD2/PWM1P, 20 P1.1/ADC1/TxD2/PWM1N

## STC8H1K28-32PIN
designator *
footprint LQFP32
footprint QFN32
pins: 1 RxD2/PWM1P/ADC0/P1.0, 2 TxD2/PWM1N/ADC1/P1.1, 3 T2/SS/PWM2P/ADC2/P1.2, 4 T2CLKO/MOSI/PWM2N/ADC3/P1.3, 5 I2CSDA/MISO/PWM3P/ADC4/P1.4, 6 I2CSCL/SCLK/PWM3N/ADC5/P1.5, 7 XTALO/MCLKO_2/RxD_3/PWM4P/ADC6/P1.6, 8 XTALI/TxD_3/PWM5_2/PWM4N/ADC7/P1.7, 9 P5.4/RST/MCLKO/PWM6_2, 10 Vcc/AVcc, 11 ADC_VRef+, 12 Gnd/AGnd, 13 P3.0/RxD/INT4, 14 P3.1/TxD, 15 P3.2/INT0/SCLK_4/I2CSCL_4/PWMETI/PWMETI2, 16 P3.3/INT1/MISO_4/I2CSDA_4/PWM4N_4/PWM7_2, 17 P3.4/T0/T1CLKO/MOSI_4/PWM4P_4/PWM8_2/CMPO, 18 P3.5/T1/T0CLKO/SS_4/PWMFLT/PWMFLT2, 19 P3.6/INT2/RxD_2/CMP-, 20 P3.7/INT3/TxD_2/CMP+, 21 P2.0/PWM1P_2/PWM5, 22 P2.1/PWM1N_2/PWM6, 23 P2.2/SS_2/PWM2P_2/PWM7, 24 P2.3/MOSI_2/PWM2N_2/PWM8, 25 PWM3P_2/I2CSDA_2/MISO_2/P2.4, 26 PWM3N_2/I2CSCL_2/SCLK_2/P2.5, 27 PWM4P_2/P2.6, 28 PWM4N_2/P2.7, 29 T3/PWM5_3/ADC8/P0.0, 30 T3CLKO/PWM6_3/ADC9/P0.1, 31 T4/PWM7_3/ADC10/P0.2, 32 T4CLKO/PWM8_3//ADC11/P0.3

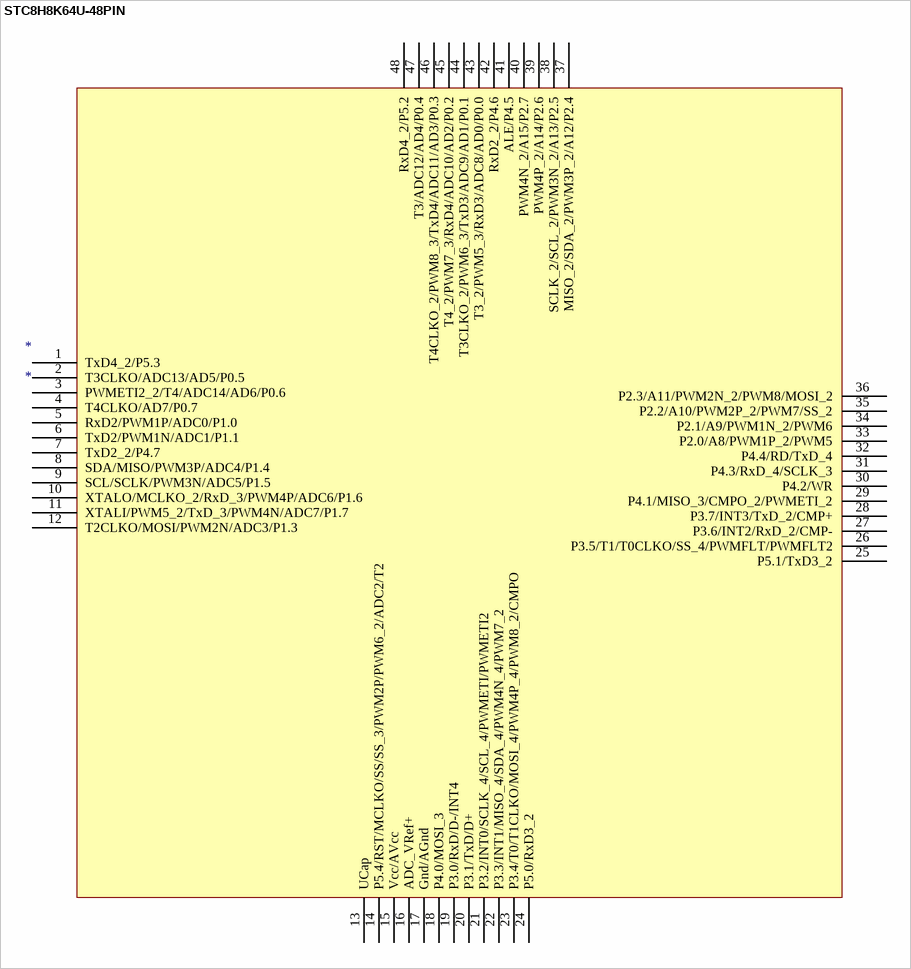
[diagram p9: symbol STC8H8K64U-48PIN]

## STC8H8K64U-48PIN
designator *
footprint LQFP48
footprint QFN48
pins: 1 TxD4_2/P5.3, 2 T3CLKO/ADC13/AD5/P0.5, 3 PWMETI2_2/T4/ADC14/AD6/P0.6, 4 T4CLKO/AD7/P0.7, 5 RxD2/PWM1P/ADC0/P1.0, 6 TxD2/PWM1N/ADC1/P1.1, 7 TxD2_2/P4.7, 8 SDA/MISO/PWM3P/ADC4/P1.4, 9 SCL/SCLK/PWM3N/ADC5/P1.5, 10 XTALO/MCLKO_2/RxD_3/PWM4P/ADC6/P1.6, 11 XTALI/PWM5_2/TxD_3/PWM4N/ADC7/P1.7, 12 T2CLKO/MOSI/PWM2N/ADC3/P1.3, 13 UCap, 14 P5.4/RST/MCLKO/SS/SS_3/PWM2P/PWM6_2/ADC2/T2, 15 Vcc/AVcc, 16 ADC_VRef+, 17 Gnd/AGnd, 18 P4.0/MOSI_3, 19 P3.0/RxD/D-/INT4, 20 P3.1/TxD/D+, 21 P3.2/INT0/SCLK_4/SCL_4/PWMETI/PWMETI2, 22 P3.3/INT1/MISO_4/SDA_4/PWM4N_4/PWM7_2, 23 P3.4/T0/T1CLKO/MOSI_4/PWM4P_4/PWM8_2/CMPO, 24 P5.0/RxD3_2, 25 P5.1/TxD3_2, 26 P3.5/T1/T0CLKO/SS_4/PWMFLT/PWMFLT2, 27 P3.6/INT2/RxD_2/CMP-, 28 P3.7/INT3/TxD_2/CMP+, 29 P4.1/MISO_3/CMPO_2/PWMETI_2, 30 P4.2/WR, 31 P4.3/RxD_4/SCLK_3, 32 P4.4/RD/TxD_4, 33 P2.0/A8/PWM1P_2/PWM5, 34 P2.1/A9/PWM1N_2/PWM6, 35 P2.2/A10/PWM2P_2/PWM7/SS_2, 36 P2.3/A11/PWM2N_2/PWM8/MOSI_2, 37 MISO_2/SDA_2/PWM3P_2/A12/P2.4, 38 SCLK_2/SCL_2/PWM3N_2/A13/P2.5, 39 PWM4P_2/A14/P2.6, 40 PWM4N_2/A15/P2.7, 41 ALE/P4.5, 42 RxD2_2/P4.6, 43 T3_2/PWM5_3/RxD3/ADC8/AD0/P0.0, 44 T3CLKO_2/PWM6_3/TxD3/ADC9/AD1/P0.1, 45 T4_2/PWM7_3/RxD4/ADC10/AD2/P0.2, 46 T4CLKO_2/PWM8_3/TxD4/ADC11/AD3/P0.3, 47 T3/ADC12/AD4/P0.4, 48 RxD4_2/P5.2

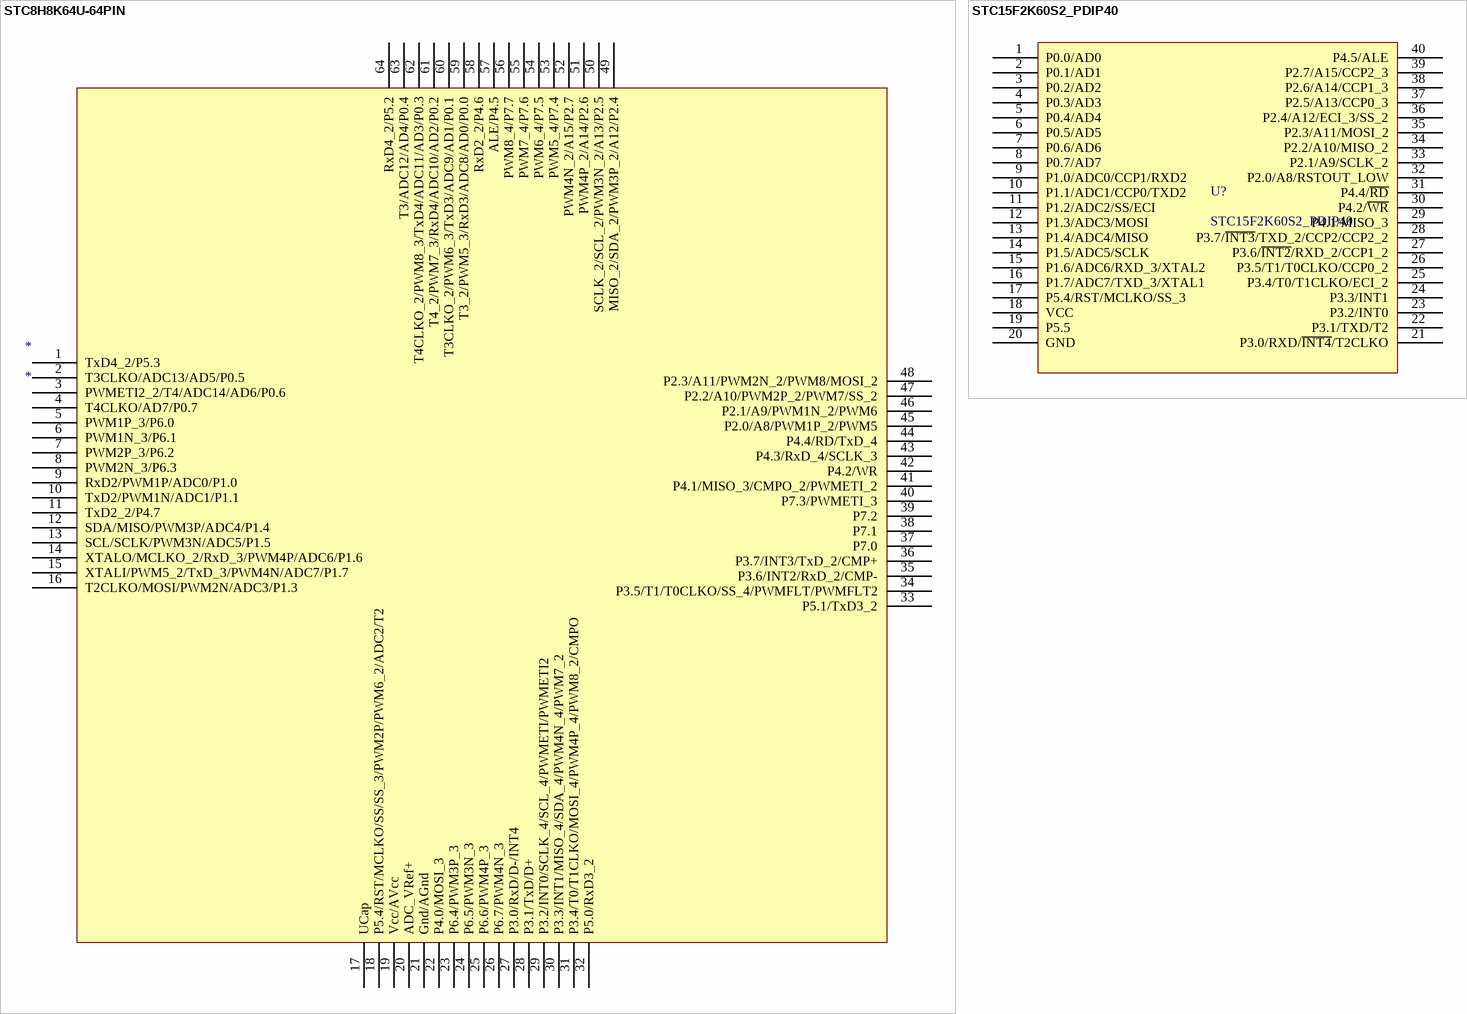
[diagram p10: symbols STC8H8K64U-64PIN to STC15F2K60S2_PDIP40]

## STC8H8K64U-64PIN
designator *
footprint LQFP64S
footprint LQFP64L
footprint QFN64
pins: 1 TxD4_2/P5.3, 2 T3CLKO/ADC13/AD5/P0.5, 3 PWMETI2_2/T4/ADC14/AD6/P0.6, 4 T4CLKO/AD7/P0.7, 5 PWM1P_3/P6.0, 6 PWM1N_3/P6.1, 7 PWM2P_3/P6.2, 8 PWM2N_3/P6.3, 9 RxD2/PWM1P/ADC0/P1.0, 10 TxD2/PWM1N/ADC1/P1.1, 11 TxD2_2/P4.7, 12 SDA/MISO/PWM3P/ADC4/P1.4, 13 SCL/SCLK/PWM3N/ADC5/P1.5, 14 XTALO/MCLKO_2/RxD_3/PWM4P/ADC6/P1.6, 15 XTALI/PWM5_2/TxD_3/PWM4N/ADC7/P1.7, 16 T2CLKO/MOSI/PWM2N/ADC3/P1.3, 17 UCap, 18 P5.4/RST/MCLKO/SS/SS_3/PWM2P/PWM6_2/ADC2/T2, 19 Vcc/AVcc, 20 ADC_VRef+, 21 Gnd/AGnd, 22 P4.0/MOSI_3, 23 P6.4/PWM3P_3, 24 P6.5/PWM3N_3, 25 P6.6/PWM4P_3, 26 P6.7/PWM4N_3, 27 P3.0/RxD/D-/INT4, 28 P3.1/TxD/D+, 29 P3.2/INT0/SCLK_4/SCL_4/PWMETI/PWMETI2, 30 P3.3/INT1/MISO_4/SDA_4/PWM4N_4/PWM7_2, 31 P3.4/T0/T1CLKO/MOSI_4/PWM4P_4/PWM8_2/CMPO, 32 P5.0/RxD3_2, 33 P5.1/TxD3_2, 34 P3.5/T1/T0CLKO/SS_4/PWMFLT/PWMFLT2, 35 P3.6/INT2/RxD_2/CMP-, 36 P3.7/INT3/TxD_2/CMP+, 37 P7.0, 38 P7.1, 39 P7.2, 40 P7.3/PWMETI_3, 41 P4.1/MISO_3/CMPO_2/PWMETI_2, 42 P4.2/WR, 43 P4.3/RxD_4/SCLK_3, 44 P4.4/RD/TxD_4, 45 P2.0/A8/PWM1P_2/PWM5, 46 P2.1/A9/PWM1N_2/PWM6, 47 P2.2/A10/PWM2P_2/PWM7/SS_2, 48 P2.3/A11/PWM2N_2/PWM8/MOSI_2, 49 MISO_2/SDA_2/PWM3P_2/A12/P2.4, 50 SCLK_2/SCL_2/PWM3N_2/A13/P2.5, 51 PWM4P_2/A14/P2.6, 52 PWM4N_2/A15/P2.7, 53 PWM5_4/P7.4, 54 PWM6_4/P7.5, 55 PWM7_4/P7.6, 56 PWM8_4/P7.7, 57 ALE/P4.5, 58 RxD2_2/P4.6, 59 T3_2/PWM5_3/RxD3/ADC8/AD0/P0.0, 60 T3CLKO_2/PWM6_3/TxD3/ADC9/AD1/P0.1, 61 T4_2/PWM7_3/RxD4/ADC10/AD2/P0.2, 62 T4CLKO_2/PWM8_3/TxD4/ADC11/AD3/P0.3, 63 T3/ADC12/AD4/P0.4, 64 RxD4_2/P5.2

## STC15F2K60S2_PDIP40
designator U?
footprint DIP40
pins: 1 P0.0/AD0, 2 P0.1/AD1, 3 P0.2/AD2, 4 P0.3/AD3, 5 P0.4/AD4, 6 P0.5/AD5, 7 P0.6/AD6, 8 P0.7/AD7, 9 P1.0/ADC0/CCP1/RXD2, 10 P1.1/ADC1/CCP0/TXD2, 11 P1.2/ADC2/SS/ECI, 12 P1.3/ADC3/MOSI, 13 P1.4/ADC4/MISO, 14 P1.5/ADC5/SCLK, 15 P1.6/ADC6/RXD_3/XTAL2, 16 P1.7/ADC7/TXD_3/XTAL1, 17 P5.4/RST/MCLKO/SS_3, 18 VCC, 19 P5.5, 20 GND, 21 P3.0/RXD/~{INT4}/T2CLKO, 22 P3.1/TXD/T2, 23 P3.2/INT0, 24 P3.3/INT1, 25 P3.4/T0/T1CLKO/ECI_2, 26 P3.5/T1/T0CLKO/CCP0_2, 27 P3.6/~{INT2}/RXD_2/CCP1_2, 28 P3.7/~{INT3}/TXD_2/CCP2/CCP2_2, 29 P4.1/MISO_3, 30 P4.2/~{WR}, 31 P4.4/~{RD}, 32 P2.0/A8/RSTOUT_LOW, 33 P2.1/A9/SCLK_2, 34 P2.2/A10/MISO_2, 35 P2.3/A11/MOSI_2, 36 P2.4/A12/ECI_3/SS_2, 37 P2.5/A13/CCP0_3, 38 P2.6/A14/CCP1_3, 39 P2.7/A15/CCP2_3, 40 P4.5/ALE

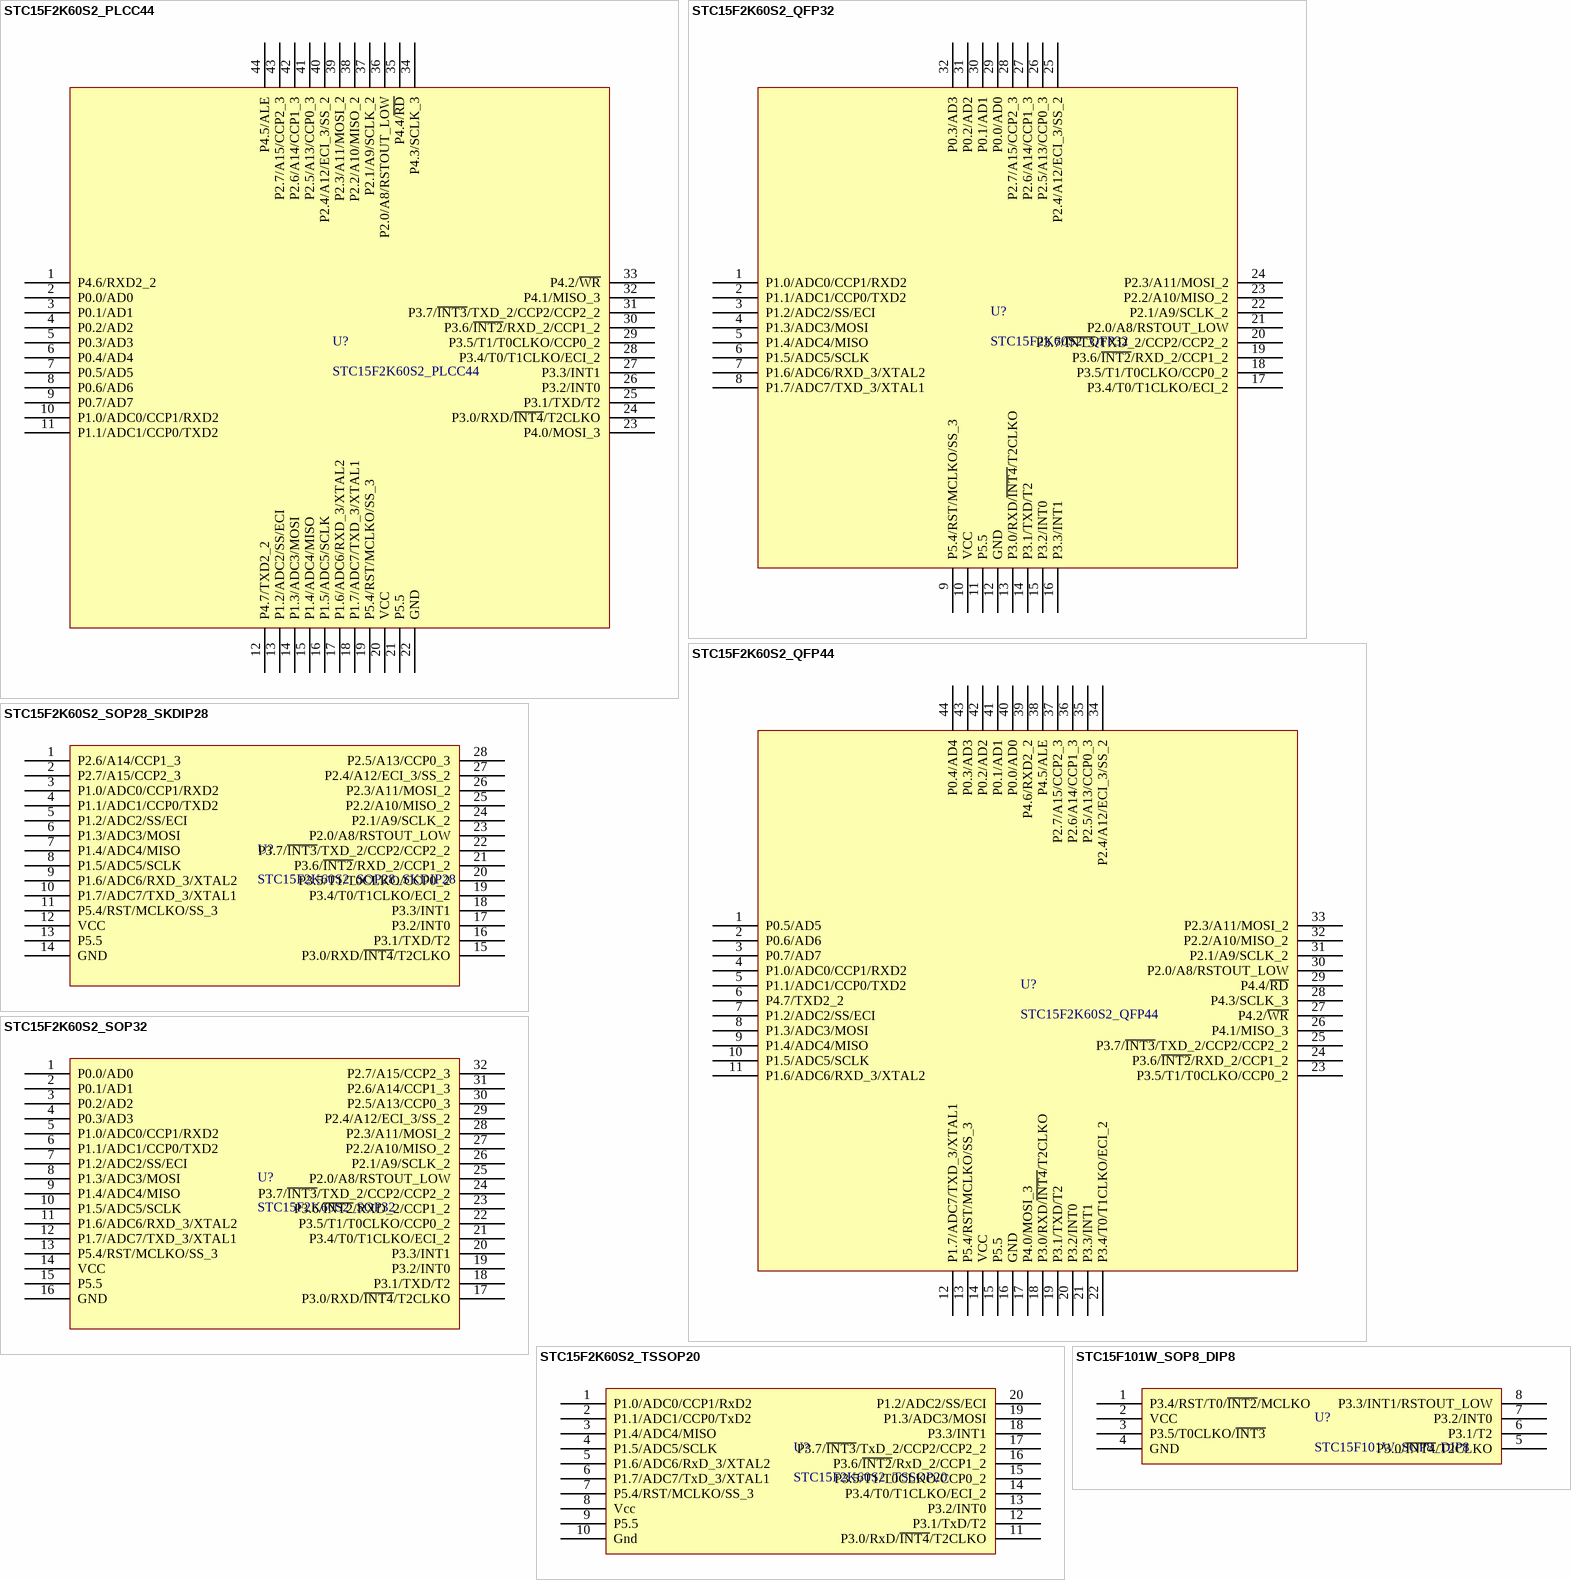
[diagram p11: symbols STC15F2K60S2_PLCC44 to STC15F101W_SOP8_DIP8]

## STC15F2K60S2_PLCC44
designator U?
footprint PLCC44
pins: 1 P4.6/RXD2_2, 2 P0.0/AD0, 3 P0.1/AD1, 4 P0.2/AD2, 5 P0.3/AD3, 6 P0.4/AD4, 7 P0.5/AD5, 8 P0.6/AD6, 9 P0.7/AD7, 10 P1.0/ADC0/CCP1/RXD2, 11 P1.1/ADC1/CCP0/TXD2, 12 P4.7/TXD2_2, 13 P1.2/ADC2/SS/ECI, 14 P1.3/ADC3/MOSI, 15 P1.4/ADC4/MISO, 16 P1.5/ADC5/SCLK, 17 P1.6/ADC6/RXD_3/XTAL2, 18 P1.7/ADC7/TXD_3/XTAL1, 19 P5.4/RST/MCLKO/SS_3, 20 VCC, 21 P5.5, 22 GND, 23 P4.0/MOSI_3, 24 P3.0/RXD/~{INT4}/T2CLKO, 25 P3.1/TXD/T2, 26 P3.2/INT0, 27 P3.3/INT1, 28 P3.4/T0/T1CLKO/ECI_2, 29 P3.5/T1/T0CLKO/CCP0_2, 30 P3.6/~{INT2}/RXD_2/CCP1_2, 31 P3.7/~{INT3}/TXD_2/CCP2/CCP2_2, 32 P4.1/MISO_3, 33 P4.2/~{WR}, 34 P4.3/SCLK_3, 35 P4.4/~{RD}, 36 P2.0/A8/RSTOUT_LOW, 37 P2.1/A9/SCLK_2, 38 P2.2/A10/MISO_2, 39 P2.3/A11/MOSI_2, 40 P2.4/A12/ECI_3/SS_2, 41 P2.5/A13/CCP0_3, 42 P2.6/A14/CCP1_3, 43 P2.7/A15/CCP2_3, 44 P4.5/ALE

## STC15F2K60S2_QFP32
designator U?
footprint LQFP32
pins: 1 P1.0/ADC0/CCP1/RXD2, 2 P1.1/ADC1/CCP0/TXD2, 3 P1.2/ADC2/SS/ECI, 4 P1.3/ADC3/MOSI, 5 P1.4/ADC4/MISO, 6 P1.5/ADC5/SCLK, 7 P1.6/ADC6/RXD_3/XTAL2, 8 P1.7/ADC7/TXD_3/XTAL1, 9 P5.4/RST/MCLKO/SS_3, 10 VCC, 11 P5.5, 12 GND, 13 P3.0/RXD/~{INT4}/T2CLKO, 14 P3.1/TXD/T2, 15 P3.2/INT0, 16 P3.3/INT1, 17 P3.4/T0/T1CLKO/ECI_2, 18 P3.5/T1/T0CLKO/CCP0_2, 19 P3.6/~{INT2}/RXD_2/CCP1_2, 20 P3.7/~{INT3}/TXD_2/CCP2/CCP2_2, 21 P2.0/A8/RSTOUT_LOW, 22 P2.1/A9/SCLK_2, 23 P2.2/A10/MISO_2, 24 P2.3/A11/MOSI_2, 25 P2.4/A12/ECI_3/SS_2, 26 P2.5/A13/CCP0_3, 27 P2.6/A14/CCP1_3, 28 P2.7/A15/CCP2_3, 29 P0.0/AD0, 30 P0.1/AD1, 31 P0.2/AD2, 32 P0.3/AD3

## STC15F2K60S2_QFP44
designator U?
footprint PQFP44
footprint LQFP44
pins: 1 P0.5/AD5, 2 P0.6/AD6, 3 P0.7/AD7, 4 P1.0/ADC0/CCP1/RXD2, 5 P1.1/ADC1/CCP0/TXD2, 6 P4.7/TXD2_2, 7 P1.2/ADC2/SS/ECI, 8 P1.3/ADC3/MOSI, 9 P1.4/ADC4/MISO, 10 P1.5/ADC5/SCLK, 11 P1.6/ADC6/RXD_3/XTAL2, 12 P1.7/ADC7/TXD_3/XTAL1, 13 P5.4/RST/MCLKO/SS_3, 14 VCC, 15 P5.5, 16 GND, 17 P4.0/MOSI_3, 18 P3.0/RXD/~{INT4}/T2CLKO, 19 P3.1/TXD/T2, 20 P3.2/INT0, 21 P3.3/INT1, 22 P3.4/T0/T1CLKO/ECI_2, 23 P3.5/T1/T0CLKO/CCP0_2, 24 P3.6/~{INT2}/RXD_2/CCP1_2, 25 P3.7/~{INT3}/TXD_2/CCP2/CCP2_2, 26 P4.1/MISO_3, 27 P4.2/~{WR}, 28 P4.3/SCLK_3, 29 P4.4/~{RD}, 30 P2.0/A8/RSTOUT_LOW, 31 P2.1/A9/SCLK_2, 32 P2.2/A10/MISO_2, 33 P2.3/A11/MOSI_2, 34 P2.4/A12/ECI_3/SS_2, 35 P2.5/A13/CCP0_3, 36 P2.6/A14/CCP1_3, 37 P2.7/A15/CCP2_3, 38 P4.5/ALE, 39 P4.6/RXD2_2, 40 P0.0/AD0, 41 P0.1/AD1, 42 P0.2/AD2, 43 P0.3/AD3, 44 P0.4/AD4

## STC15F2K60S2_SOP28_SKDIP28
designator U?
footprint SKDIP28
footprint SOP28
footprint TSSOP28
pins: 1 P2.6/A14/CCP1_3, 2 P2.7/A15/CCP2_3, 3 P1.0/ADC0/CCP1/RXD2, 4 P1.1/ADC1/CCP0/TXD2, 5 P1.2/ADC2/SS/ECI, 6 P1.3/ADC3/MOSI, 7 P1.4/ADC4/MISO, 8 P1.5/ADC5/SCLK, 9 P1.6/ADC6/RXD_3/XTAL2, 10 P1.7/ADC7/TXD_3/XTAL1, 11 P5.4/RST/MCLKO/SS_3, 12 VCC, 13 P5.5, 14 GND, 15 P3.0/RXD/~{INT4}/T2CLKO, 16 P3.1/TXD/T2, 17 P3.2/INT0, 18 P3.3/INT1, 19 P3.4/T0/T1CLKO/ECI_2, 20 P3.5/T1/T0CLKO/CCP0_2, 21 P3.6/~{INT2}/RXD_2/CCP1_2, 22 P3.7/~{INT3}/TXD_2/CCP2/CCP2_2, 23 P2.0/A8/RSTOUT_LOW, 24 P2.1/A9/SCLK_2, 25 P2.2/A10/MISO_2, 26 P2.3/A11/MOSI_2, 27 P2.4/A12/ECI_3/SS_2, 28 P2.5/A13/CCP0_3

## STC15F2K60S2_SOP32
designator U?
footprint SOP32
pins: 1 P0.0/AD0, 2 P0.1/AD1, 3 P0.2/AD2, 4 P0.3/AD3, 5 P1.0/ADC0/CCP1/RXD2, 6 P1.1/ADC1/CCP0/TXD2, 7 P1.2/ADC2/SS/ECI, 8 P1.3/ADC3/MOSI, 9 P1.4/ADC4/MISO, 10 P1.5/ADC5/SCLK, 11 P1.6/ADC6/RXD_3/XTAL2, 12 P1.7/ADC7/TXD_3/XTAL1, 13 P5.4/RST/MCLKO/SS_3, 14 VCC, 15 P5.5, 16 GND, 17 P3.0/RXD/~{INT4}/T2CLKO, 18 P3.1/TXD/T2, 19 P3.2/INT0, 20 P3.3/INT1, 21 P3.4/T0/T1CLKO/ECI_2, 22 P3.5/T1/T0CLKO/CCP0_2, 23 P3.6/~{INT2}/RXD_2/CCP1_2, 24 P3.7/~{INT3}/TXD_2/CCP2/CCP2_2, 25 P2.0/A8/RSTOUT_LOW, 26 P2.1/A9/SCLK_2, 27 P2.2/A10/MISO_2, 28 P2.3/A11/MOSI_2, 29 P2.4/A12/ECI_3/SS_2, 30 P2.5/A13/CCP0_3, 31 P2.6/A14/CCP1_3, 32 P2.7/A15/CCP2_3

## STC15F2K60S2_TSSOP20
designator U?
footprint TSSOP20
pins: 1 P1.0/ADC0/CCP1/RxD2, 2 P1.1/ADC1/CCP0/TxD2, 3 P1.4/ADC4/MISO, 4 P1.5/ADC5/SCLK, 5 P1.6/ADC6/RxD_3/XTAL2, 6 P1.7/ADC7/TxD_3/XTAL1, 7 P5.4/RST/MCLKO/SS_3, 8 Vcc, 9 P5.5, 10 Gnd, 11 P3.0/RxD/~{INT4}/T2CLKO, 12 P3.1/TxD/T2, 13 P3.2/INT0, 14 P3.4/T0/T1CLKO/ECI_2, 15 P3.5/T1/T0CLKO/CCP0_2, 16 P3.6/~{INT2}/RxD_2/CCP1_2, 17 P3.7/~{INT3}/TxD_2/CCP2/CCP2_2, 18 P3.3/INT1, 19 P1.3/ADC3/MOSI, 20 P1.2/ADC2/SS/ECI

## STC15F101W_SOP8_DIP8
designator U?
footprint DFN8
footprint DIP8
footprint SOP8
pins: 1 P3.4/RST/T0/~{INT2}/MCLKO, 2 VCC, 3 P3.5/T0CLKO/~{INT3}, 4 GND, 5 P3.0/~{INT4}/T2CLKO, 6 P3.1/T2, 7 P3.2/INT0, 8 P3.3/INT1/RSTOUT_LOW

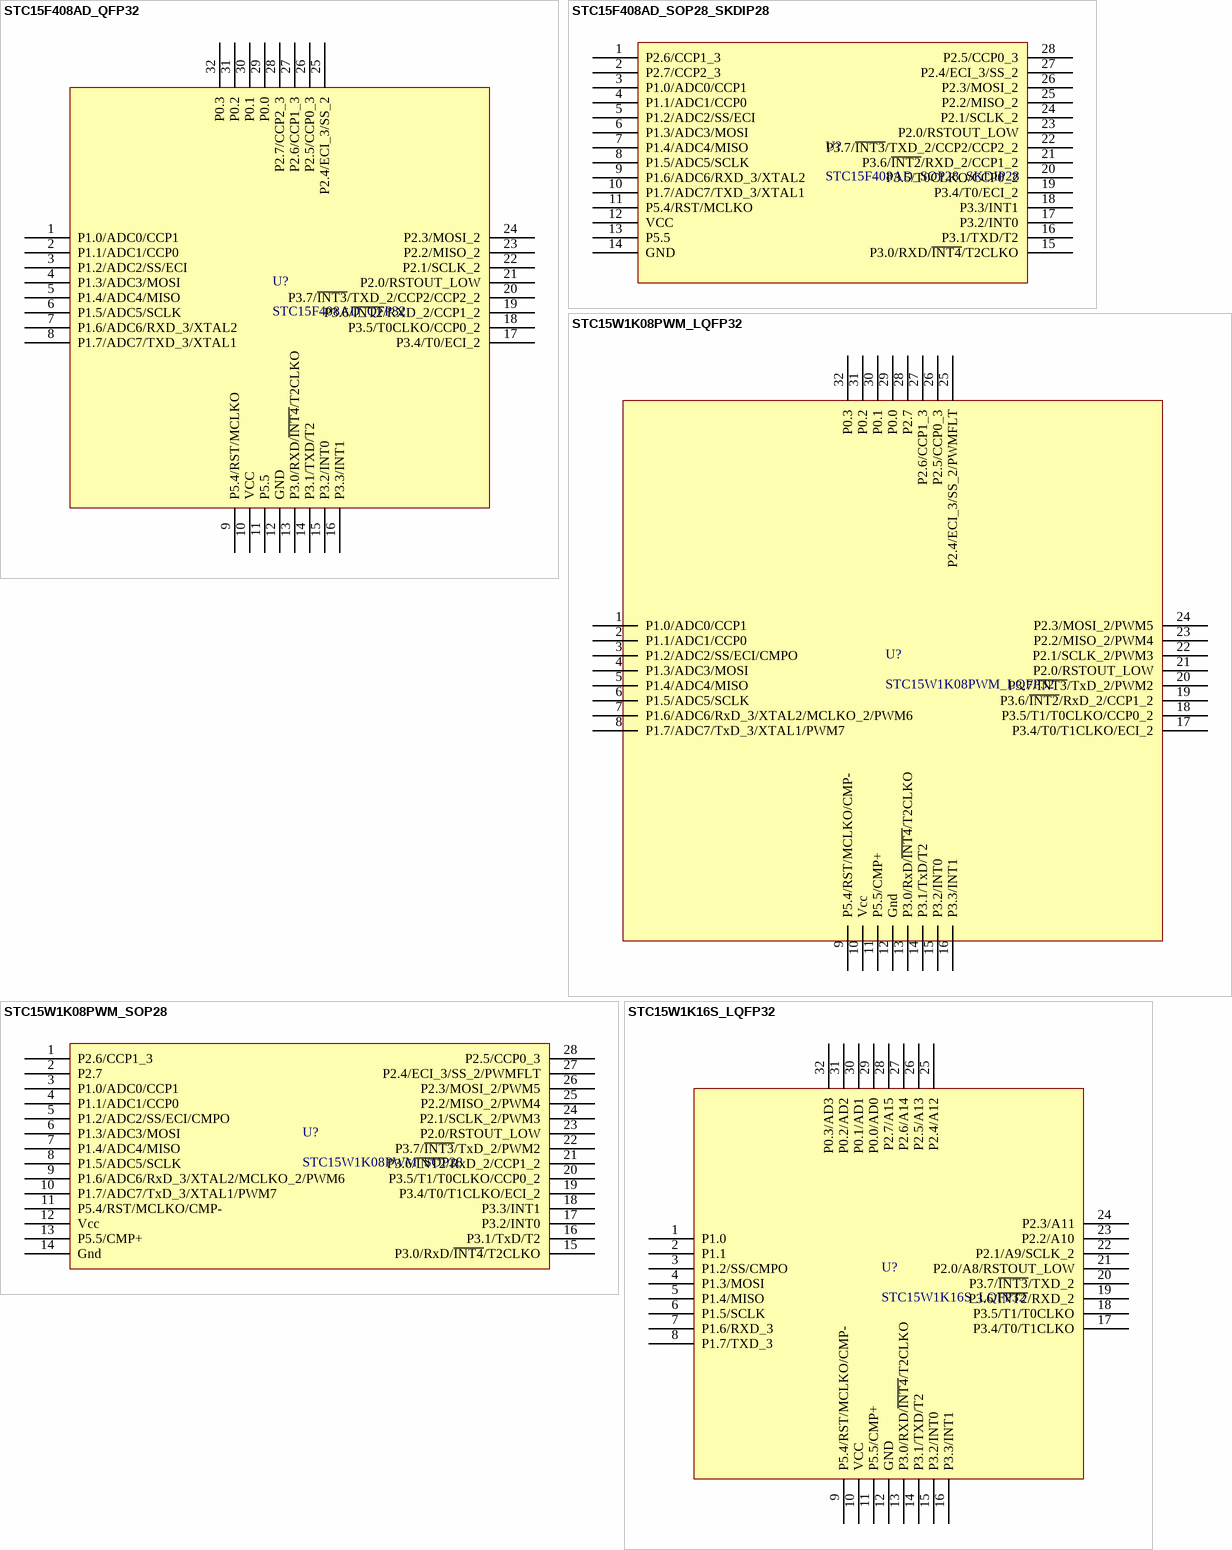
[diagram p12: symbols STC15F408AD_QFP32 to STC15W1K16S_LQFP32]

## STC15F408AD_QFP32
designator U?
footprint LQFP32
pins: 1 P1.0/ADC0/CCP1, 2 P1.1/ADC1/CCP0, 3 P1.2/ADC2/SS/ECI, 4 P1.3/ADC3/MOSI, 5 P1.4/ADC4/MISO, 6 P1.5/ADC5/SCLK, 7 P1.6/ADC6/RXD_3/XTAL2, 8 P1.7/ADC7/TXD_3/XTAL1, 9 P5.4/RST/MCLKO, 10 VCC, 11 P5.5, 12 GND, 13 P3.0/RXD/~{INT4}/T2CLKO, 14 P3.1/TXD/T2, 15 P3.2/INT0, 16 P3.3/INT1, 17 P3.4/T0/ECI_2, 18 P3.5/T0CLKO/CCP0_2, 19 P3.6/~{INT2}/RXD_2/CCP1_2, 20 P3.7/~{INT3}/TXD_2/CCP2/CCP2_2, 21 P2.0/RSTOUT_LOW, 22 P2.1/SCLK_2, 23 P2.2/MISO_2, 24 P2.3/MOSI_2, 25 P2.4/ECI_3/SS_2, 26 P2.5/CCP0_3, 27 P2.6/CCP1_3, 28 P2.7/CCP2_3, 29 P0.0, 30 P0.1, 31 P0.2, 32 P0.3

## STC15F408AD_SOP28_SKDIP28
designator U?
footprint SKDIP28
footprint SOP28
footprint TSSOP28
pins: 1 P2.6/CCP1_3, 2 P2.7/CCP2_3, 3 P1.0/ADC0/CCP1, 4 P1.1/ADC1/CCP0, 5 P1.2/ADC2/SS/ECI, 6 P1.3/ADC3/MOSI, 7 P1.4/ADC4/MISO, 8 P1.5/ADC5/SCLK, 9 P1.6/ADC6/RXD_3/XTAL2, 10 P1.7/ADC7/TXD_3/XTAL1, 11 P5.4/RST/MCLKO, 12 VCC, 13 P5.5, 14 GND, 15 P3.0/RXD/~{INT4}/T2CLKO, 16 P3.1/TXD/T2, 17 P3.2/INT0, 18 P3.3/INT1, 19 P3.4/T0/ECI_2, 20 P3.5/T0CLKO/CCP0_2, 21 P3.6/~{INT2}/RXD_2/CCP1_2, 22 P3.7/~{INT3}/TXD_2/CCP2/CCP2_2, 23 P2.0/RSTOUT_LOW, 24 P2.1/SCLK_2, 25 P2.2/MISO_2, 26 P2.3/MOSI_2, 27 P2.4/ECI_3/SS_2, 28 P2.5/CCP0_3

## STC15W1K08PWM_LQFP32
designator U?
footprint LQFP32
pins: 1 P1.0/ADC0/CCP1, 2 P1.1/ADC1/CCP0, 3 P1.2/ADC2/SS/ECI/CMPO, 4 P1.3/ADC3/MOSI, 5 P1.4/ADC4/MISO, 6 P1.5/ADC5/SCLK, 7 P1.6/ADC6/RxD_3/XTAL2/MCLKO_2/PWM6, 8 P1.7/ADC7/TxD_3/XTAL1/PWM7, 9 P5.4/RST/MCLKO/CMP-, 10 Vcc, 11 P5.5/CMP+, 12 Gnd, 13 P3.0/RxD/~{INT4}/T2CLKO, 14 P3.1/TxD/T2, 15 P3.2/INT0, 16 P3.3/INT1, 17 P3.4/T0/T1CLKO/ECI_2, 18 P3.5/T1/T0CLKO/CCP0_2, 19 P3.6/~{INT2}/RxD_2/CCP1_2, 20 P3.7/~{INT3}/TxD_2/PWM2, 21 P2.0/RSTOUT_LOW, 22 P2.1/SCLK_2/PWM3, 23 P2.2/MISO_2/PWM4, 24 P2.3/MOSI_2/PWM5, 25 P2.4/ECI_3/SS_2/PWMFLT, 26 P2.5/CCP0_3, 27 P2.6/CCP1_3, 28 P2.7, 29 P0.0, 30 P0.1, 31 P0.2, 32 P0.3

## STC15W1K08PWM_SOP28
designator U?
footprint SOP28
pins: 1 P2.6/CCP1_3, 2 P2.7, 3 P1.0/ADC0/CCP1, 4 P1.1/ADC1/CCP0, 5 P1.2/ADC2/SS/ECI/CMPO, 6 P1.3/ADC3/MOSI, 7 P1.4/ADC4/MISO, 8 P1.5/ADC5/SCLK, 9 P1.6/ADC6/RxD_3/XTAL2/MCLKO_2/PWM6, 10 P1.7/ADC7/TxD_3/XTAL1/PWM7, 11 P5.4/RST/MCLKO/CMP-, 12 Vcc, 13 P5.5/CMP+, 14 Gnd, 15 P3.0/RxD/~{INT4}/T2CLKO, 16 P3.1/TxD/T2, 17 P3.2/INT0, 18 P3.3/INT1, 19 P3.4/T0/T1CLKO/ECI_2, 20 P3.5/T1/T0CLKO/CCP0_2, 21 P3.6/~{INT2}/RxD_2/CCP1_2, 22 P3.7/~{INT3}/TxD_2/PWM2, 23 P2.0/RSTOUT_LOW, 24 P2.1/SCLK_2/PWM3, 25 P2.2/MISO_2/PWM4, 26 P2.3/MOSI_2/PWM5, 27 P2.4/ECI_3/SS_2/PWMFLT, 28 P2.5/CCP0_3

## STC15W1K16S_LQFP32
designator U?
footprint LQFP32
pins: 1 P1.0, 2 P1.1, 3 P1.2/SS/CMPO, 4 P1.3/MOSI, 5 P1.4/MISO, 6 P1.5/SCLK, 7 P1.6/RXD_3, 8 P1.7/TXD_3, 9 P5.4/RST/MCLKO/CMP-, 10 VCC, 11 P5.5/CMP+, 12 GND, 13 P3.0/RXD/~{INT4}/T2CLKO, 14 P3.1/TXD/T2, 15 P3.2/INT0, 16 P3.3/INT1, 17 P3.4/T0/T1CLKO, 18 P3.5/T1/T0CLKO, 19 P3.6/~{INT2}/RXD_2, 20 P3.7/~{INT3}/TXD_2, 21 P2.0/A8/RSTOUT_LOW, 22 P2.1/A9/SCLK_2, 23 P2.2/A10, 24 P2.3/A11, 25 P2.4/A12, 26 P2.5/A13, 27 P2.6/A14, 28 P2.7/A15, 29 P0.0/AD0, 30 P0.1/AD1, 31 P0.2/AD2, 32 P0.3/AD3

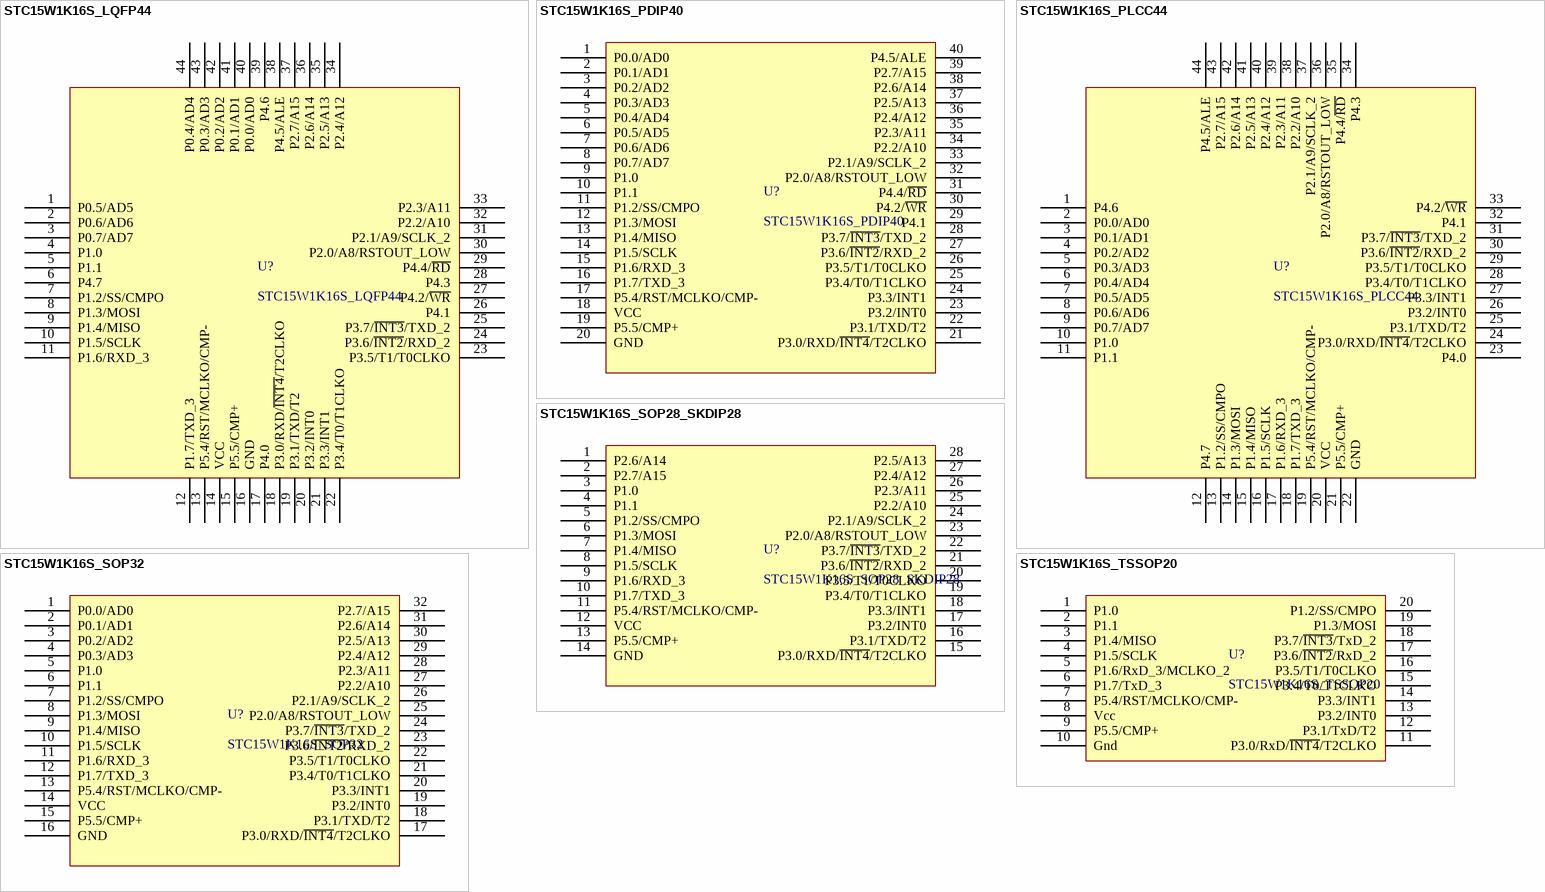
[diagram p13: symbols STC15W1K16S_LQFP44 to STC15W1K16S_TSSOP20]

## STC15W1K16S_LQFP44
designator U?
footprint LQFP44
footprint PQFP44
pins: 1 P0.5/AD5, 2 P0.6/AD6, 3 P0.7/AD7, 4 P1.0, 5 P1.1, 6 P4.7, 7 P1.2/SS/CMPO, 8 P1.3/MOSI, 9 P1.4/MISO, 10 P1.5/SCLK, 11 P1.6/RXD_3, 12 P1.7/TXD_3, 13 P5.4/RST/MCLKO/CMP-, 14 VCC, 15 P5.5/CMP+, 16 GND, 17 P4.0, 18 P3.0/RXD/~{INT4}/T2CLKO, 19 P3.1/TXD/T2, 20 P3.2/INT0, 21 P3.3/INT1, 22 P3.4/T0/T1CLKO, 23 P3.5/T1/T0CLKO, 24 P3.6/~{INT2}/RXD_2, 25 P3.7/~{INT3}/TXD_2, 26 P4.1, 27 P4.2/~{WR}, 28 P4.3, 29 P4.4/~{RD}, 30 P2.0/A8/RSTOUT_LOW, 31 P2.1/A9/SCLK_2, 32 P2.2/A10, 33 P2.3/A11, 34 P2.4/A12, 35 P2.5/A13, 36 P2.6/A14, 37 P2.7/A15, 38 P4.5/ALE, 39 P4.6, 40 P0.0/AD0, 41 P0.1/AD1, 42 P0.2/AD2, 43 P0.3/AD3, 44 P0.4/AD4

## STC15W1K16S_PDIP40
designator U?
footprint DIP40
pins: 1 P0.0/AD0, 2 P0.1/AD1, 3 P0.2/AD2, 4 P0.3/AD3, 5 P0.4/AD4, 6 P0.5/AD5, 7 P0.6/AD6, 8 P0.7/AD7, 9 P1.0, 10 P1.1, 11 P1.2/SS/CMPO, 12 P1.3/MOSI, 13 P1.4/MISO, 14 P1.5/SCLK, 15 P1.6/RXD_3, 16 P1.7/TXD_3, 17 P5.4/RST/MCLKO/CMP-, 18 VCC, 19 P5.5/CMP+, 20 GND, 21 P3.0/RXD/~{INT4}/T2CLKO, 22 P3.1/TXD/T2, 23 P3.2/INT0, 24 P3.3/INT1, 25 P3.4/T0/T1CLKO, 26 P3.5/T1/T0CLKO, 27 P3.6/~{INT2}/RXD_2, 28 P3.7/~{INT3}/TXD_2, 29 P4.1, 30 P4.2/~{WR}, 31 P4.4/~{RD}, 32 P2.0/A8/RSTOUT_LOW, 33 P2.1/A9/SCLK_2, 34 P2.2/A10, 35 P2.3/A11, 36 P2.4/A12, 37 P2.5/A13, 38 P2.6/A14, 39 P2.7/A15, 40 P4.5/ALE

## STC15W1K16S_PLCC44
designator U?
footprint PLCC44
pins: 1 P4.6, 2 P0.0/AD0, 3 P0.1/AD1, 4 P0.2/AD2, 5 P0.3/AD3, 6 P0.4/AD4, 7 P0.5/AD5, 8 P0.6/AD6, 9 P0.7/AD7, 10 P1.0, 11 P1.1, 12 P4.7, 13 P1.2/SS/CMPO, 14 P1.3/MOSI, 15 P1.4/MISO, 16 P1.5/SCLK, 17 P1.6/RXD_3, 18 P1.7/TXD_3, 19 P5.4/RST/MCLKO/CMP-, 20 VCC, 21 P5.5/CMP+, 22 GND, 23 P4.0, 24 P3.0/RXD/~{INT4}/T2CLKO, 25 P3.1/TXD/T2, 26 P3.2/INT0, 27 P3.3/INT1, 28 P3.4/T0/T1CLKO, 29 P3.5/T1/T0CLKO, 30 P3.6/~{INT2}/RXD_2, 31 P3.7/~{INT3}/TXD_2, 32 P4.1, 33 P4.2/~{WR}, 34 P4.3, 35 P4.4/~{RD}, 36 P2.0/A8/RSTOUT_LOW, 37 P2.1/A9/SCLK_2, 38 P2.2/A10, 39 P2.3/A11, 40 P2.4/A12, 41 P2.5/A13, 42 P2.6/A14, 43 P2.7/A15, 44 P4.5/ALE

## STC15W1K16S_SOP28_SKDIP28
designator U?
footprint SKDIP28
footprint SOP28
footprint TSSOP28
pins: 1 P2.6/A14, 2 P2.7/A15, 3 P1.0, 4 P1.1, 5 P1.2/SS/CMPO, 6 P1.3/MOSI, 7 P1.4/MISO, 8 P1.5/SCLK, 9 P1.6/RXD_3, 10 P1.7/TXD_3, 11 P5.4/RST/MCLKO/CMP-, 12 VCC, 13 P5.5/CMP+, 14 GND, 15 P3.0/RXD/~{INT4}/T2CLKO, 16 P3.1/TXD/T2, 17 P3.2/INT0, 18 P3.3/INT1, 19 P3.4/T0/T1CLKO, 20 P3.5/T1/T0CLKO, 21 P3.6/~{INT2}/RXD_2, 22 P3.7/~{INT3}/TXD_2, 23 P2.0/A8/RSTOUT_LOW, 24 P2.1/A9/SCLK_2, 25 P2.2/A10, 26 P2.3/A11, 27 P2.4/A12, 28 P2.5/A13

## STC15W1K16S_SOP32
designator U?
footprint SOP32
pins: 1 P0.0/AD0, 2 P0.1/AD1, 3 P0.2/AD2, 4 P0.3/AD3, 5 P1.0, 6 P1.1, 7 P1.2/SS/CMPO, 8 P1.3/MOSI, 9 P1.4/MISO, 10 P1.5/SCLK, 11 P1.6/RXD_3, 12 P1.7/TXD_3, 13 P5.4/RST/MCLKO/CMP-, 14 VCC, 15 P5.5/CMP+, 16 GND, 17 P3.0/RXD/~{INT4}/T2CLKO, 18 P3.1/TXD/T2, 19 P3.2/INT0, 20 P3.3/INT1, 21 P3.4/T0/T1CLKO, 22 P3.5/T1/T0CLKO, 23 P3.6/~{INT2}/RXD_2, 24 P3.7/~{INT3}/TXD_2, 25 P2.0/A8/RSTOUT_LOW, 26 P2.1/A9/SCLK_2, 27 P2.2/A10, 28 P2.3/A11, 29 P2.4/A12, 30 P2.5/A13, 31 P2.6/A14, 32 P2.7/A15

## STC15W1K16S_TSSOP20
designator U?
footprint TSSOP20
pins: 1 P1.0, 2 P1.1, 3 P1.4/MISO, 4 P1.5/SCLK, 5 P1.6/RxD_3/MCLKO_2, 6 P1.7/TxD_3, 7 P5.4/RST/MCLKO/CMP-, 8 Vcc, 9 P5.5/CMP+, 10 Gnd, 11 P3.0/RxD/~{INT4}/T2CLKO, 12 P3.1/TxD/T2, 13 P3.2/INT0, 14 P3.3/INT1, 15 P3.4/T0/T1CLKO, 16 P3.5/T1/T0CLKO, 17 P3.6/~{INT2}/RxD_2, 18 P3.7/~{INT3}/TxD_2, 19 P1.3/MOSI, 20 P1.2/SS/CMPO

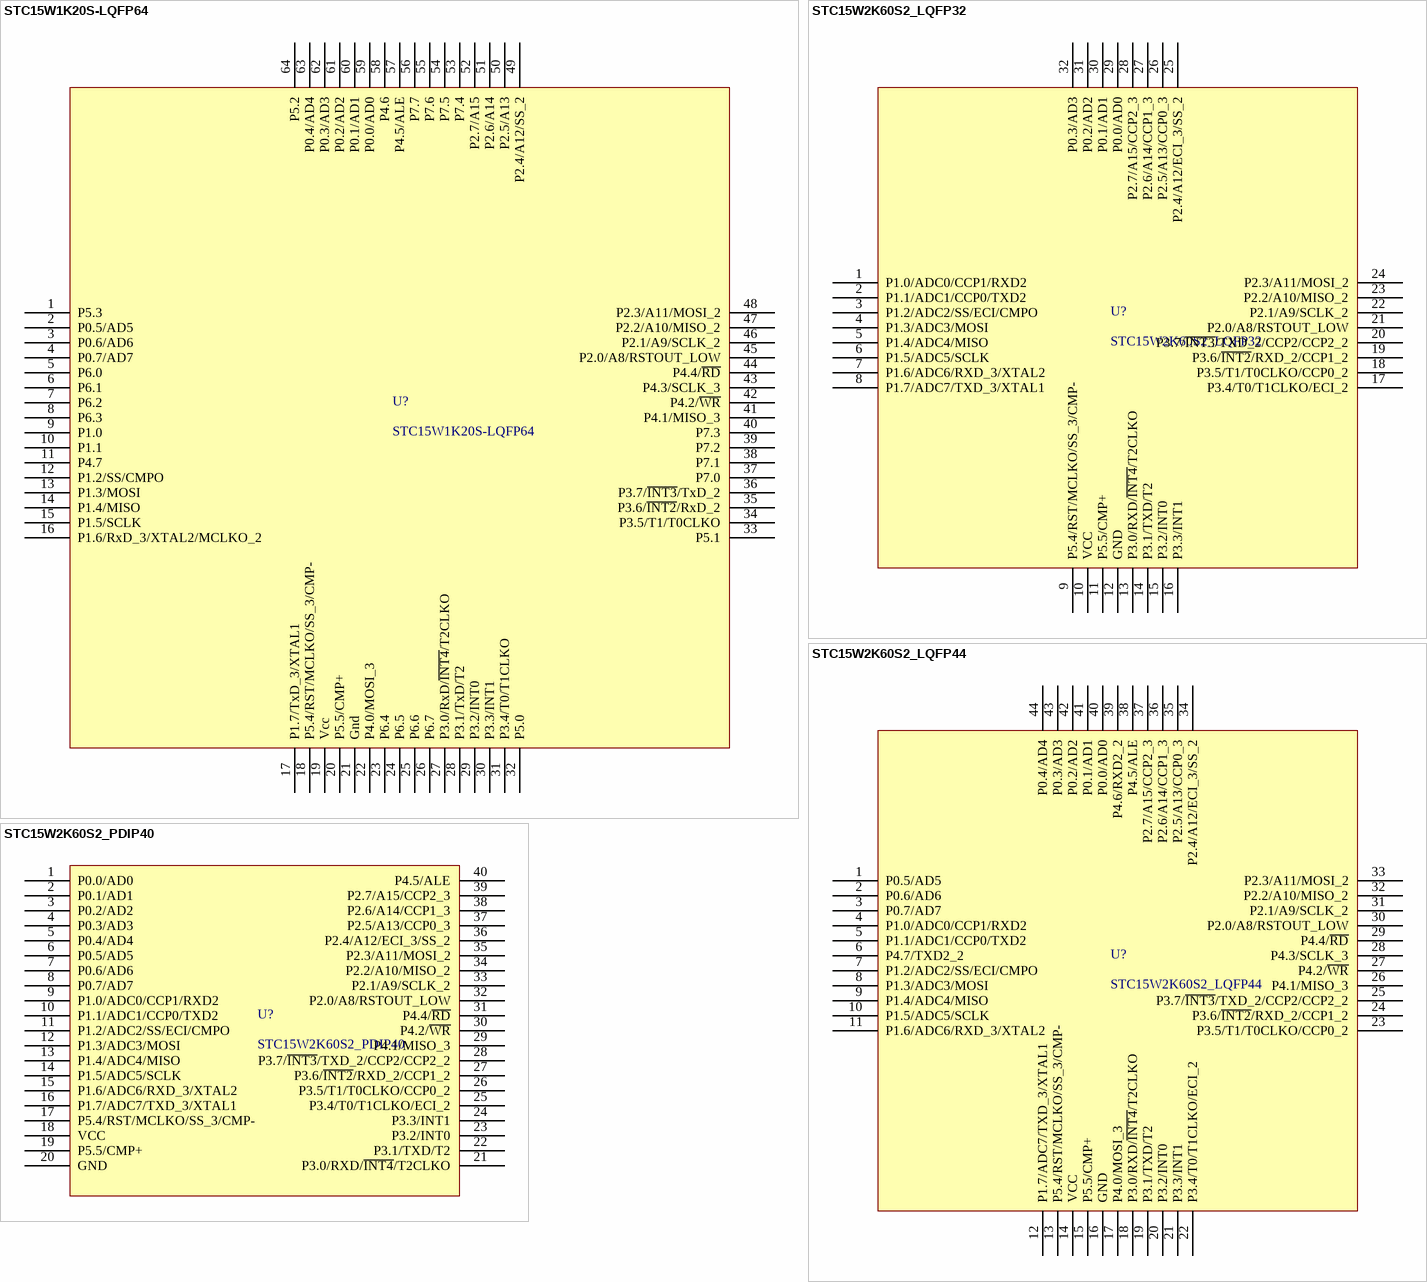
[diagram p14: symbols STC15W1K20S-LQFP64 to STC15W2K60S2_PDIP40]

## STC15W1K20S-LQFP64
designator U?
footprint LQFP64
footprint lqfp64s
footprint lqfp64l
pins: 1 P5.3, 2 P0.5/AD5, 3 P0.6/AD6, 4 P0.7/AD7, 5 P6.0, 6 P6.1, 7 P6.2, 8 P6.3, 9 P1.0, 10 P1.1, 11 P4.7, 12 P1.2/SS/CMPO, 13 P1.3/MOSI, 14 P1.4/MISO, 15 P1.5/SCLK, 16 P1.6/RxD_3/XTAL2/MCLKO_2, 17 P1.7/TxD_3/XTAL1, 18 P5.4/RST/MCLKO/SS_3/CMP-, 19 Vcc, 20 P5.5/CMP+, 21 Gnd, 22 P4.0/MOSI_3, 23 P6.4, 24 P6.5, 25 P6.6, 26 P6.7, 27 P3.0/RxD/~{INT4}/T2CLKO, 28 P3.1/TxD/T2, 29 P3.2/INT0, 30 P3.3/INT1, 31 P3.4/T0/T1CLKO, 32 P5.0, 33 P5.1, 34 P3.5/T1/T0CLKO, 35 P3.6/~{INT2}/RxD_2, 36 P3.7/~{INT3}/TxD_2, 37 P7.0, 38 P7.1, 39 P7.2, 40 P7.3, 41 P4.1/MISO_3, 42 P4.2/~{WR}, 43 P4.3/SCLK_3, 44 P4.4/~{RD}, 45 P2.0/A8/RSTOUT_LOW, 46 P2.1/A9/SCLK_2, 47 P2.2/A10/MISO_2, 48 P2.3/A11/MOSI_2, 49 P2.4/A12/SS_2, 50 P2.5/A13, 51 P2.6/A14, 52 P2.7/A15, 53 P7.4, 54 P7.5, 55 P7.6, 56 P7.7, 57 P4.5/ALE, 58 P4.6, 59 P0.0/AD0, 60 P0.1/AD1, 61 P0.2/AD2, 62 P0.3/AD3, 63 P0.4/AD4, 64 P5.2

## STC15W2K60S2_LQFP32
designator U?
footprint LQFP32
pins: 1 P1.0/ADC0/CCP1/RXD2, 2 P1.1/ADC1/CCP0/TXD2, 3 P1.2/ADC2/SS/ECI/CMPO, 4 P1.3/ADC3/MOSI, 5 P1.4/ADC4/MISO, 6 P1.5/ADC5/SCLK, 7 P1.6/ADC6/RXD_3/XTAL2, 8 P1.7/ADC7/TXD_3/XTAL1, 9 P5.4/RST/MCLKO/SS_3/CMP-, 10 VCC, 11 P5.5/CMP+, 12 GND, 13 P3.0/RXD/~{INT4}/T2CLKO, 14 P3.1/TXD/T2, 15 P3.2/INT0, 16 P3.3/INT1, 17 P3.4/T0/T1CLKO/ECI_2, 18 P3.5/T1/T0CLKO/CCP0_2, 19 P3.6/~{INT2}/RXD_2/CCP1_2, 20 P3.7/~{INT3}/TXD_2/CCP2/CCP2_2, 21 P2.0/A8/RSTOUT_LOW, 22 P2.1/A9/SCLK_2, 23 P2.2/A10/MISO_2, 24 P2.3/A11/MOSI_2, 25 P2.4/A12/ECI_3/SS_2, 26 P2.5/A13/CCP0_3, 27 P2.6/A14/CCP1_3, 28 P2.7/A15/CCP2_3, 29 P0.0/AD0, 30 P0.1/AD1, 31 P0.2/AD2, 32 P0.3/AD3

## STC15W2K60S2_LQFP44
designator U?
footprint LQFP44
footprint PQFP44
pins: 1 P0.5/AD5, 2 P0.6/AD6, 3 P0.7/AD7, 4 P1.0/ADC0/CCP1/RXD2, 5 P1.1/ADC1/CCP0/TXD2, 6 P4.7/TXD2_2, 7 P1.2/ADC2/SS/ECI/CMPO, 8 P1.3/ADC3/MOSI, 9 P1.4/ADC4/MISO, 10 P1.5/ADC5/SCLK, 11 P1.6/ADC6/RXD_3/XTAL2, 12 P1.7/ADC7/TXD_3/XTAL1, 13 P5.4/RST/MCLKO/SS_3/CMP-, 14 VCC, 15 P5.5/CMP+, 16 GND, 17 P4.0/MOSI_3, 18 P3.0/RXD/~{INT4}/T2CLKO, 19 P3.1/TXD/T2, 20 P3.2/INT0, 21 P3.3/INT1, 22 P3.4/T0/T1CLKO/ECI_2, 23 P3.5/T1/T0CLKO/CCP0_2, 24 P3.6/~{INT2}/RXD_2/CCP1_2, 25 P3.7/~{INT3}/TXD_2/CCP2/CCP2_2, 26 P4.1/MISO_3, 27 P4.2/~{WR}, 28 P4.3/SCLK_3, 29 P4.4/~{RD}, 30 P2.0/A8/RSTOUT_LOW, 31 P2.1/A9/SCLK_2, 32 P2.2/A10/MISO_2, 33 P2.3/A11/MOSI_2, 34 P2.4/A12/ECI_3/SS_2, 35 P2.5/A13/CCP0_3, 36 P2.6/A14/CCP1_3, 37 P2.7/A15/CCP2_3, 38 P4.5/ALE, 39 P4.6/RXD2_2, 40 P0.0/AD0, 41 P0.1/AD1, 42 P0.2/AD2, 43 P0.3/AD3, 44 P0.4/AD4

## STC15W2K60S2_PDIP40
designator U?
footprint DIP40
pins: 1 P0.0/AD0, 2 P0.1/AD1, 3 P0.2/AD2, 4 P0.3/AD3, 5 P0.4/AD4, 6 P0.5/AD5, 7 P0.6/AD6, 8 P0.7/AD7, 9 P1.0/ADC0/CCP1/RXD2, 10 P1.1/ADC1/CCP0/TXD2, 11 P1.2/ADC2/SS/ECI/CMPO, 12 P1.3/ADC3/MOSI, 13 P1.4/ADC4/MISO, 14 P1.5/ADC5/SCLK, 15 P1.6/ADC6/RXD_3/XTAL2, 16 P1.7/ADC7/TXD_3/XTAL1, 17 P5.4/RST/MCLKO/SS_3/CMP-, 18 VCC, 19 P5.5/CMP+, 20 GND, 21 P3.0/RXD/~{INT4}/T2CLKO, 22 P3.1/TXD/T2, 23 P3.2/INT0, 24 P3.3/INT1, 25 P3.4/T0/T1CLKO/ECI_2, 26 P3.5/T1/T0CLKO/CCP0_2, 27 P3.6/~{INT2}/RXD_2/CCP1_2, 28 P3.7/~{INT3}/TXD_2/CCP2/CCP2_2, 29 P4.1/MISO_3, 30 P4.2/~{WR}, 31 P4.4/~{RD}, 32 P2.0/A8/RSTOUT_LOW, 33 P2.1/A9/SCLK_2, 34 P2.2/A10/MISO_2, 35 P2.3/A11/MOSI_2, 36 P2.4/A12/ECI_3/SS_2, 37 P2.5/A13/CCP0_3, 38 P2.6/A14/CCP1_3, 39 P2.7/A15/CCP2_3, 40 P4.5/ALE

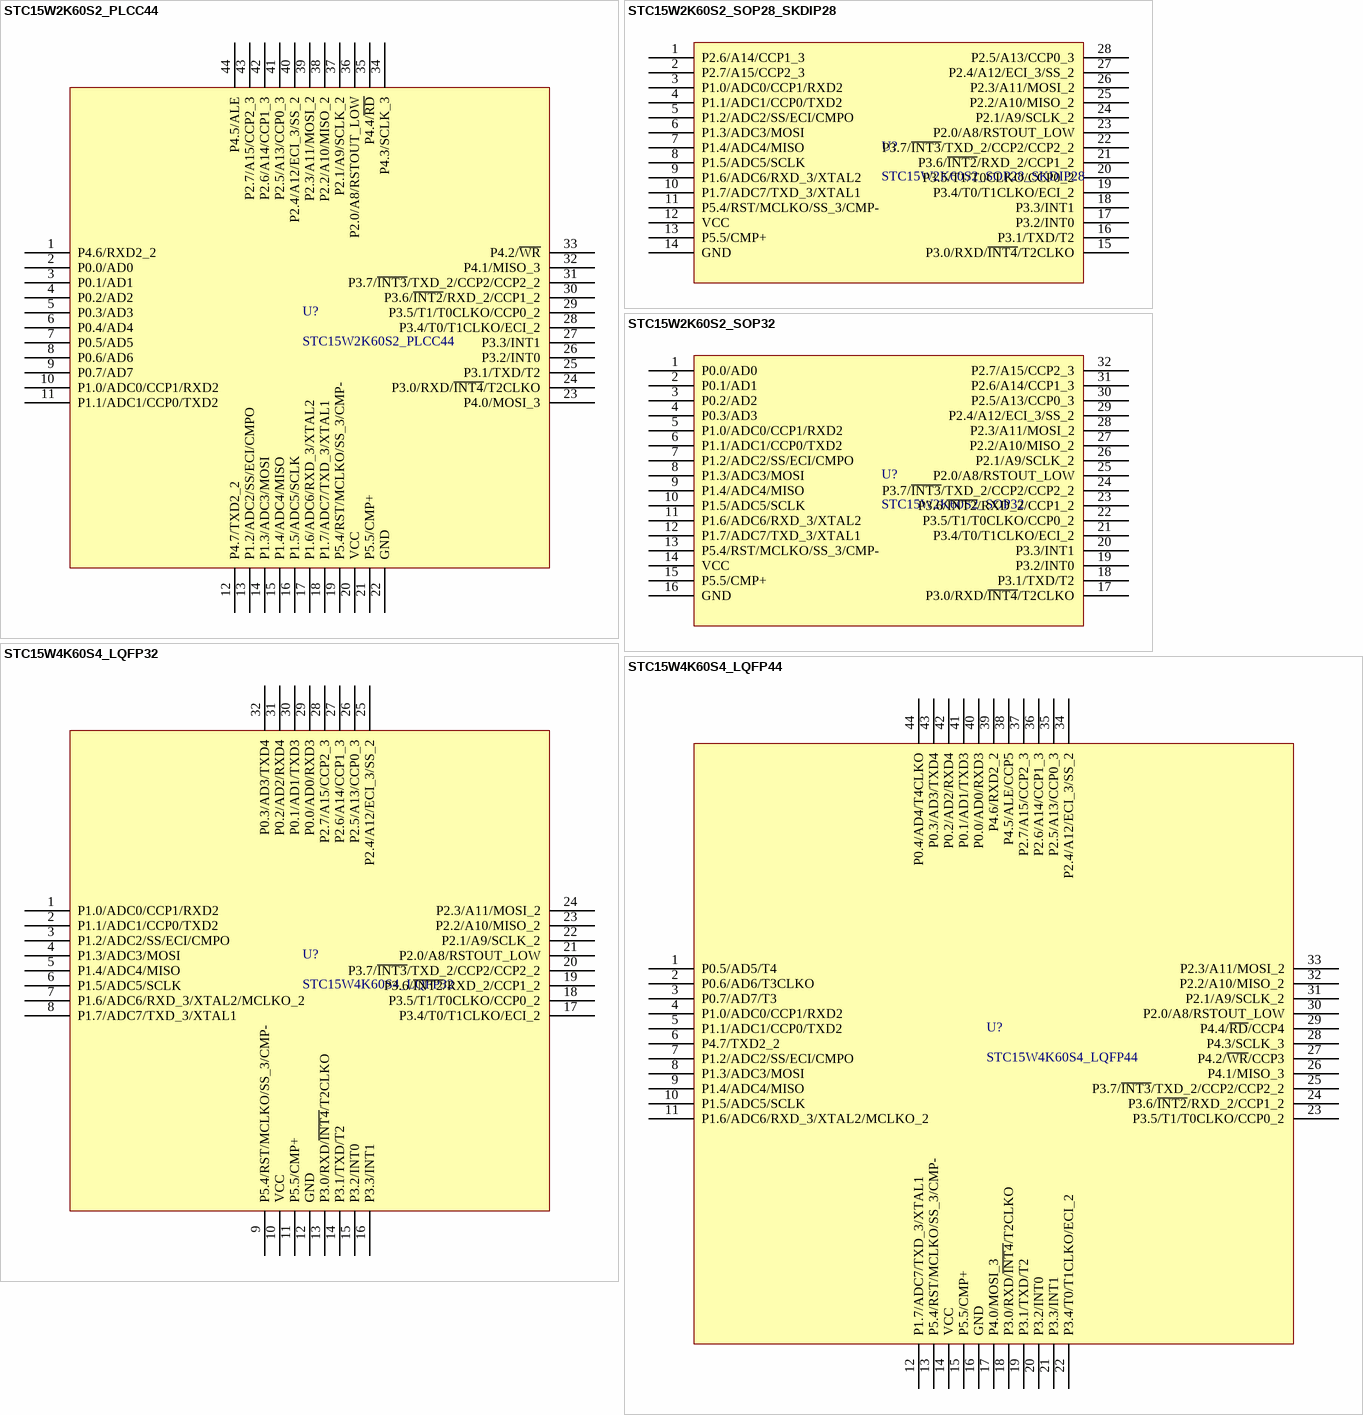
[diagram p15: symbols STC15W2K60S2_PLCC44 to STC15W4K60S4_LQFP44]

## STC15W2K60S2_PLCC44
designator U?
footprint PLCC44
pins: 1 P4.6/RXD2_2, 2 P0.0/AD0, 3 P0.1/AD1, 4 P0.2/AD2, 5 P0.3/AD3, 6 P0.4/AD4, 7 P0.5/AD5, 8 P0.6/AD6, 9 P0.7/AD7, 10 P1.0/ADC0/CCP1/RXD2, 11 P1.1/ADC1/CCP0/TXD2, 12 P4.7/TXD2_2, 13 P1.2/ADC2/SS/ECI/CMPO, 14 P1.3/ADC3/MOSI, 15 P1.4/ADC4/MISO, 16 P1.5/ADC5/SCLK, 17 P1.6/ADC6/RXD_3/XTAL2, 18 P1.7/ADC7/TXD_3/XTAL1, 19 P5.4/RST/MCLKO/SS_3/CMP-, 20 VCC, 21 P5.5/CMP+, 22 GND, 23 P4.0/MOSI_3, 24 P3.0/RXD/~{INT4}/T2CLKO, 25 P3.1/TXD/T2, 26 P3.2/INT0, 27 P3.3/INT1, 28 P3.4/T0/T1CLKO/ECI_2, 29 P3.5/T1/T0CLKO/CCP0_2, 30 P3.6/~{INT2}/RXD_2/CCP1_2, 31 P3.7/~{INT3}/TXD_2/CCP2/CCP2_2, 32 P4.1/MISO_3, 33 P4.2/~{WR}, 34 P4.3/SCLK_3, 35 P4.4/~{RD}, 36 P2.0/A8/RSTOUT_LOW, 37 P2.1/A9/SCLK_2, 38 P2.2/A10/MISO_2, 39 P2.3/A11/MOSI_2, 40 P2.4/A12/ECI_3/SS_2, 41 P2.5/A13/CCP0_3, 42 P2.6/A14/CCP1_3, 43 P2.7/A15/CCP2_3, 44 P4.5/ALE

## STC15W2K60S2_SOP28_SKDIP28
designator U?
footprint SKDIP28
footprint SOP28
footprint TSSOP28
pins: 1 P2.6/A14/CCP1_3, 2 P2.7/A15/CCP2_3, 3 P1.0/ADC0/CCP1/RXD2, 4 P1.1/ADC1/CCP0/TXD2, 5 P1.2/ADC2/SS/ECI/CMPO, 6 P1.3/ADC3/MOSI, 7 P1.4/ADC4/MISO, 8 P1.5/ADC5/SCLK, 9 P1.6/ADC6/RXD_3/XTAL2, 10 P1.7/ADC7/TXD_3/XTAL1, 11 P5.4/RST/MCLKO/SS_3/CMP-, 12 VCC, 13 P5.5/CMP+, 14 GND, 15 P3.0/RXD/~{INT4}/T2CLKO, 16 P3.1/TXD/T2, 17 P3.2/INT0, 18 P3.3/INT1, 19 P3.4/T0/T1CLKO/ECI_2, 20 P3.5/T1/T0CLKO/CCP0_2, 21 P3.6/~{INT2}/RXD_2/CCP1_2, 22 P3.7/~{INT3}/TXD_2/CCP2/CCP2_2, 23 P2.0/A8/RSTOUT_LOW, 24 P2.1/A9/SCLK_2, 25 P2.2/A10/MISO_2, 26 P2.3/A11/MOSI_2, 27 P2.4/A12/ECI_3/SS_2, 28 P2.5/A13/CCP0_3

## STC15W2K60S2_SOP32
designator U?
footprint SOP32
pins: 1 P0.0/AD0, 2 P0.1/AD1, 3 P0.2/AD2, 4 P0.3/AD3, 5 P1.0/ADC0/CCP1/RXD2, 6 P1.1/ADC1/CCP0/TXD2, 7 P1.2/ADC2/SS/ECI/CMPO, 8 P1.3/ADC3/MOSI, 9 P1.4/ADC4/MISO, 10 P1.5/ADC5/SCLK, 11 P1.6/ADC6/RXD_3/XTAL2, 12 P1.7/ADC7/TXD_3/XTAL1, 13 P5.4/RST/MCLKO/SS_3/CMP-, 14 VCC, 15 P5.5/CMP+, 16 GND, 17 P3.0/RXD/~{INT4}/T2CLKO, 18 P3.1/TXD/T2, 19 P3.2/INT0, 20 P3.3/INT1, 21 P3.4/T0/T1CLKO/ECI_2, 22 P3.5/T1/T0CLKO/CCP0_2, 23 P3.6/~{INT2}/RXD_2/CCP1_2, 24 P3.7/~{INT3}/TXD_2/CCP2/CCP2_2, 25 P2.0/A8/RSTOUT_LOW, 26 P2.1/A9/SCLK_2, 27 P2.2/A10/MISO_2, 28 P2.3/A11/MOSI_2, 29 P2.4/A12/ECI_3/SS_2, 30 P2.5/A13/CCP0_3, 31 P2.6/A14/CCP1_3, 32 P2.7/A15/CCP2_3

## STC15W4K60S4_LQFP32
designator U?
footprint LQFP32
pins: 1 P1.0/ADC0/CCP1/RXD2, 2 P1.1/ADC1/CCP0/TXD2, 3 P1.2/ADC2/SS/ECI/CMPO, 4 P1.3/ADC3/MOSI, 5 P1.4/ADC4/MISO, 6 P1.5/ADC5/SCLK, 7 P1.6/ADC6/RXD_3/XTAL2/MCLKO_2, 8 P1.7/ADC7/TXD_3/XTAL1, 9 P5.4/RST/MCLKO/SS_3/CMP-, 10 VCC, 11 P5.5/CMP+, 12 GND, 13 P3.0/RXD/~{INT4}/T2CLKO, 14 P3.1/TXD/T2, 15 P3.2/INT0, 16 P3.3/INT1, 17 P3.4/T0/T1CLKO/ECI_2, 18 P3.5/T1/T0CLKO/CCP0_2, 19 P3.6/~{INT2}/RXD_2/CCP1_2, 20 P3.7/~{INT3}/TXD_2/CCP2/CCP2_2, 21 P2.0/A8/RSTOUT_LOW, 22 P2.1/A9/SCLK_2, 23 P2.2/A10/MISO_2, 24 P2.3/A11/MOSI_2, 25 P2.4/A12/ECI_3/SS_2, 26 P2.5/A13/CCP0_3, 27 P2.6/A14/CCP1_3, 28 P2.7/A15/CCP2_3, 29 P0.0/AD0/RXD3, 30 P0.1/AD1/TXD3, 31 P0.2/AD2/RXD4, 32 P0.3/AD3/TXD4

## STC15W4K60S4_LQFP44
designator U?
footprint LQFP44
footprint PQFP44
pins: 1 P0.5/AD5/T4, 2 P0.6/AD6/T3CLKO, 3 P0.7/AD7/T3, 4 P1.0/ADC0/CCP1/RXD2, 5 P1.1/ADC1/CCP0/TXD2, 6 P4.7/TXD2_2, 7 P1.2/ADC2/SS/ECI/CMPO, 8 P1.3/ADC3/MOSI, 9 P1.4/ADC4/MISO, 10 P1.5/ADC5/SCLK, 11 P1.6/ADC6/RXD_3/XTAL2/MCLKO_2, 12 P1.7/ADC7/TXD_3/XTAL1, 13 P5.4/RST/MCLKO/SS_3/CMP-, 14 VCC, 15 P5.5/CMP+, 16 GND, 17 P4.0/MOSI_3, 18 P3.0/RXD/~{INT4}/T2CLKO, 19 P3.1/TXD/T2, 20 P3.2/INT0, 21 P3.3/INT1, 22 P3.4/T0/T1CLKO/ECI_2, 23 P3.5/T1/T0CLKO/CCP0_2, 24 P3.6/~{INT2}/RXD_2/CCP1_2, 25 P3.7/~{INT3}/TXD_2/CCP2/CCP2_2, 26 P4.1/MISO_3, 27 P4.2/~{WR}/CCP3, 28 P4.3/SCLK_3, 29 P4.4/~{RD}/CCP4, 30 P2.0/A8/RSTOUT_LOW, 31 P2.1/A9/SCLK_2, 32 P2.2/A10/MISO_2, 33 P2.3/A11/MOSI_2, 34 P2.4/A12/ECI_3/SS_2, 35 P2.5/A13/CCP0_3, 36 P2.6/A14/CCP1_3, 37 P2.7/A15/CCP2_3, 38 P4.5/ALE/CCP5, 39 P4.6/RXD2_2, 40 P0.0/AD0/RXD3, 41 P0.1/AD1/TXD3, 42 P0.2/AD2/RXD4, 43 P0.3/AD3/TXD4, 44 P0.4/AD4/T4CLKO

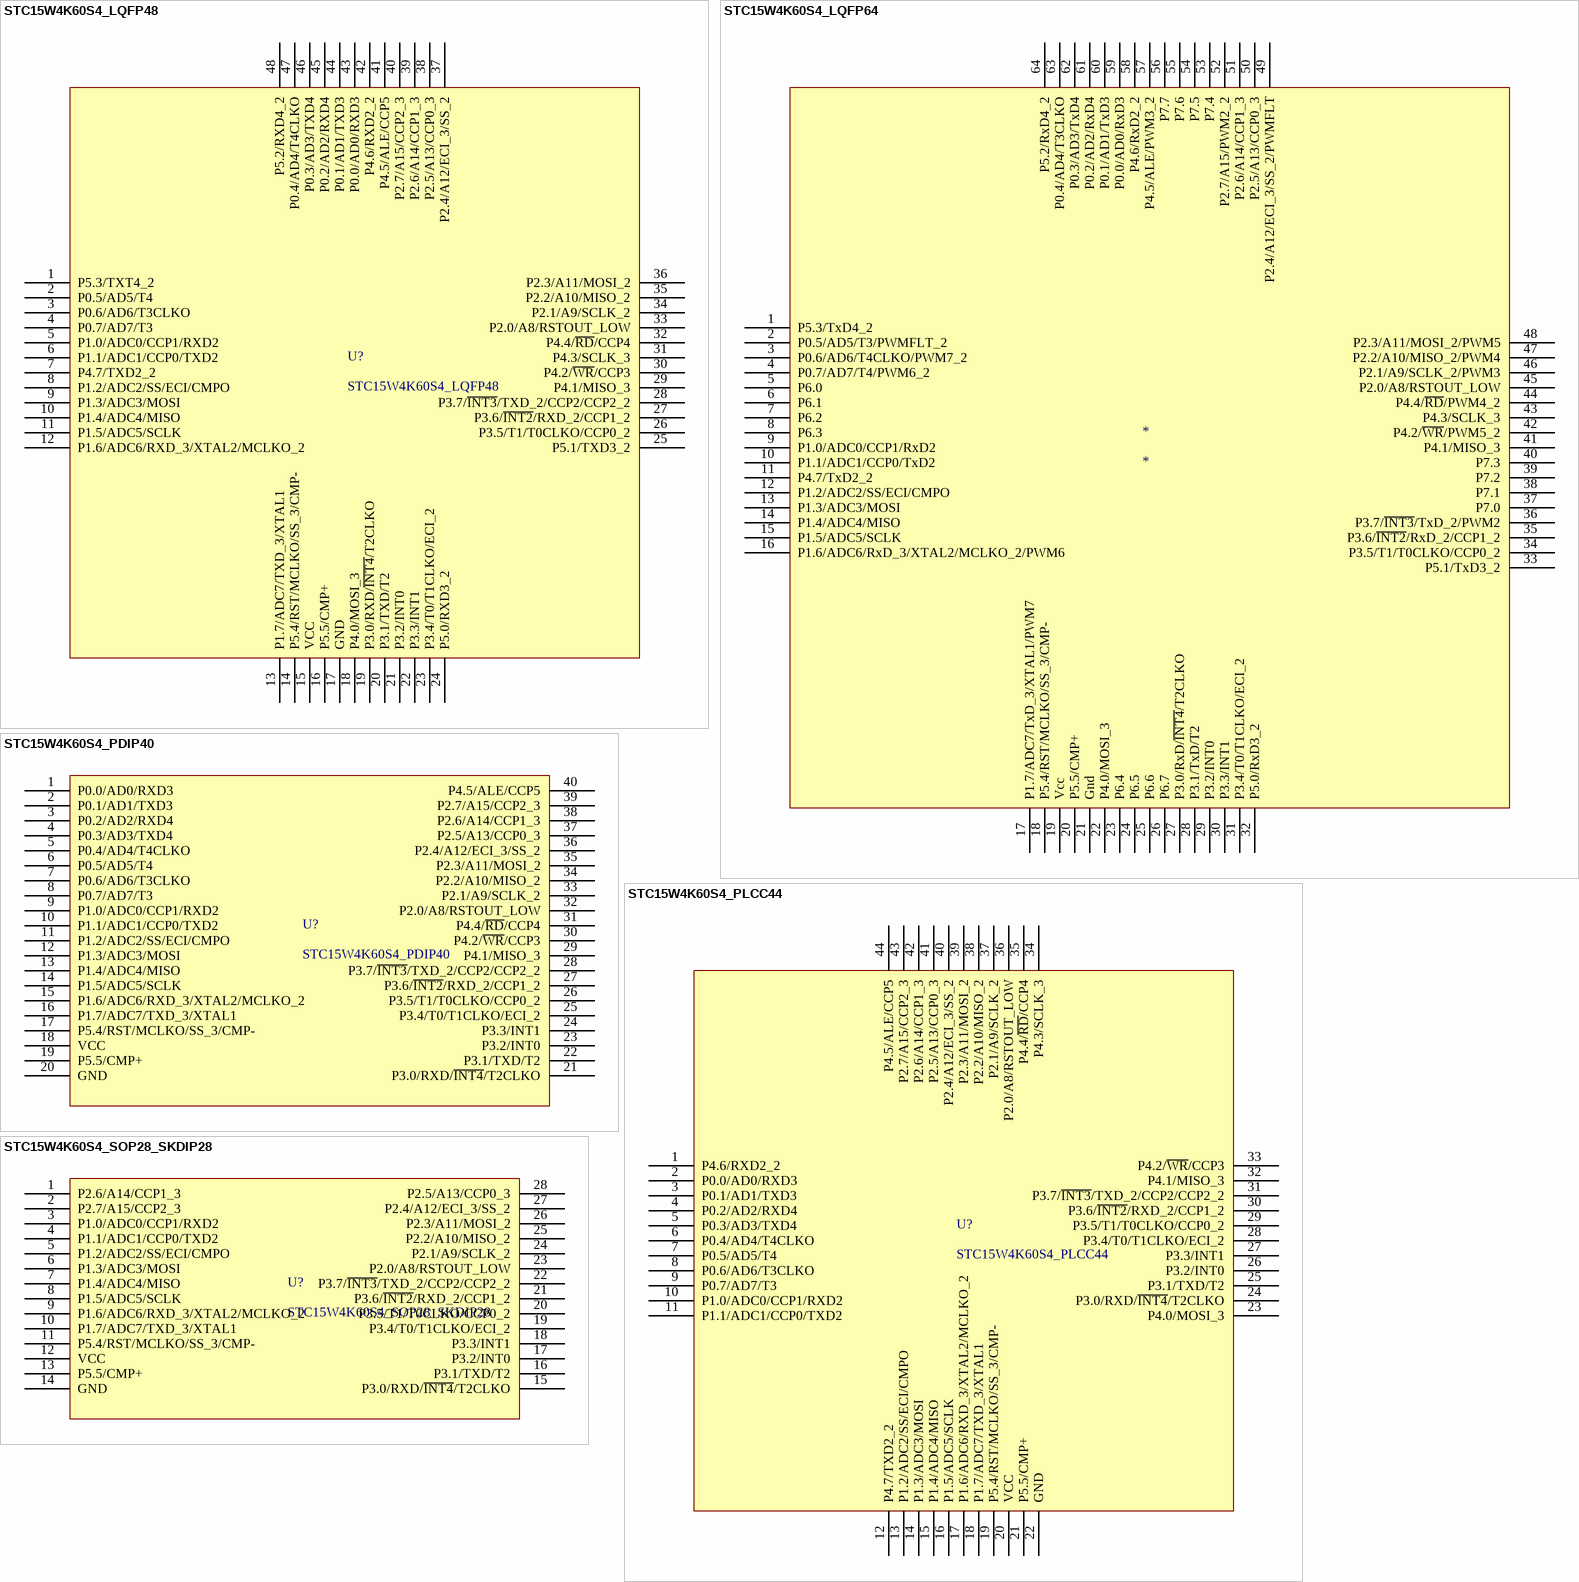
[diagram p16: symbols STC15W4K60S4_LQFP48 to STC15W4K60S4_SOP28_SKDIP28]

## STC15W4K60S4_LQFP48
designator U?
footprint LQFP48
pins: 1 P5.3/TXT4_2, 2 P0.5/AD5/T4, 3 P0.6/AD6/T3CLKO, 4 P0.7/AD7/T3, 5 P1.0/ADC0/CCP1/RXD2, 6 P1.1/ADC1/CCP0/TXD2, 7 P4.7/TXD2_2, 8 P1.2/ADC2/SS/ECI/CMPO, 9 P1.3/ADC3/MOSI, 10 P1.4/ADC4/MISO, 11 P1.5/ADC5/SCLK, 12 P1.6/ADC6/RXD_3/XTAL2/MCLKO_2, 13 P1.7/ADC7/TXD_3/XTAL1, 14 P5.4/RST/MCLKO/SS_3/CMP-, 15 VCC, 16 P5.5/CMP+, 17 GND, 18 P4.0/MOSI_3, 19 P3.0/RXD/~{INT4}/T2CLKO, 20 P3.1/TXD/T2, 21 P3.2/INT0, 22 P3.3/INT1, 23 P3.4/T0/T1CLKO/ECI_2, 24 P5.0/RXD3_2, 25 P5.1/TXD3_2, 26 P3.5/T1/T0CLKO/CCP0_2, 27 P3.6/~{INT2}/RXD_2/CCP1_2, 28 P3.7/~{INT3}/TXD_2/CCP2/CCP2_2, 29 P4.1/MISO_3, 30 P4.2/~{WR}/CCP3, 31 P4.3/SCLK_3, 32 P4.4/~{RD}/CCP4, 33 P2.0/A8/RSTOUT_LOW, 34 P2.1/A9/SCLK_2, 35 P2.2/A10/MISO_2, 36 P2.3/A11/MOSI_2, 37 P2.4/A12/ECI_3/SS_2, 38 P2.5/A13/CCP0_3, 39 P2.6/A14/CCP1_3, 40 P2.7/A15/CCP2_3, 41 P4.5/ALE/CCP5, 42 P4.6/RXD2_2, 43 P0.0/AD0/RXD3, 44 P0.1/AD1/TXD3, 45 P0.2/AD2/RXD4, 46 P0.3/AD3/TXD4, 47 P0.4/AD4/T4CLKO, 48 P5.2/RXD4_2

## STC15W4K60S4_LQFP64
designator *
footprint LQFP64
pins: 1 P5.3/TxD4_2, 2 P0.5/AD5/T3/PWMFLT_2, 3 P0.6/AD6/T4CLKO/PWM7_2, 4 P0.7/AD7/T4/PWM6_2, 5 P6.0, 6 P6.1, 7 P6.2, 8 P6.3, 9 P1.0/ADC0/CCP1/RxD2, 10 P1.1/ADC1/CCP0/TxD2, 11 P4.7/TxD2_2, 12 P1.2/ADC2/SS/ECI/CMPO, 13 P1.3/ADC3/MOSI, 14 P1.4/ADC4/MISO, 15 P1.5/ADC5/SCLK, 16 P1.6/ADC6/RxD_3/XTAL2/MCLKO_2/PWM6, 17 P1.7/ADC7/TxD_3/XTAL1/PWM7, 18 P5.4/RST/MCLKO/SS_3/CMP-, 19 Vcc, 20 P5.5/CMP+, 21 Gnd, 22 P4.0/MOSI_3, 23 P6.4, 24 P6.5, 25 P6.6, 26 P6.7, 27 P3.0/RxD/~{INT4}/T2CLKO, 28 P3.1/TxD/T2, 29 P3.2/INT0, 30 P3.3/INT1, 31 P3.4/T0/T1CLKO/ECI_2, 32 P5.0/RxD3_2, 33 P5.1/TxD3_2, 34 P3.5/T1/T0CLKO/CCP0_2, 35 P3.6/~{INT2}/RxD_2/CCP1_2, 36 P3.7/~{INT3}/TxD_2/PWM2, 37 P7.0, 38 P7.1, 39 P7.2, 40 P7.3, 41 P4.1/MISO_3, 42 P4.2/~{WR}/PWM5_2, 43 P4.3/SCLK_3, 44 P4.4/~{RD}/PWM4_2, 45 P2.0/A8/RSTOUT_LOW, 46 P2.1/A9/SCLK_2/PWM3, 47 P2.2/A10/MISO_2/PWM4, 48 P2.3/A11/MOSI_2/PWM5, 49 P2.4/A12/ECI_3/SS_2/PWMFLT, 50 P2.5/A13/CCP0_3, 51 P2.6/A14/CCP1_3, 52 P2.7/A15/PWM2_2, 53 P7.4, 54 P7.5, 55 P7.6, 56 P7.7, 57 P4.5/ALE/PWM3_2, 58 P4.6/RxD2_2, 59 P0.0/AD0/RxD3, 60 P0.1/AD1/TxD3, 61 P0.2/AD2/RxD4, 62 P0.3/AD3/TxD4, 63 P0.4/AD4/T3CLKO, 64 P5.2/RxD4_2

## STC15W4K60S4_PDIP40
designator U?
footprint DIP40
pins: 1 P0.0/AD0/RXD3, 2 P0.1/AD1/TXD3, 3 P0.2/AD2/RXD4, 4 P0.3/AD3/TXD4, 5 P0.4/AD4/T4CLKO, 6 P0.5/AD5/T4, 7 P0.6/AD6/T3CLKO, 8 P0.7/AD7/T3, 9 P1.0/ADC0/CCP1/RXD2, 10 P1.1/ADC1/CCP0/TXD2, 11 P1.2/ADC2/SS/ECI/CMPO, 12 P1.3/ADC3/MOSI, 13 P1.4/ADC4/MISO, 14 P1.5/ADC5/SCLK, 15 P1.6/ADC6/RXD_3/XTAL2/MCLKO_2, 16 P1.7/ADC7/TXD_3/XTAL1, 17 P5.4/RST/MCLKO/SS_3/CMP-, 18 VCC, 19 P5.5/CMP+, 20 GND, 21 P3.0/RXD/~{INT4}/T2CLKO, 22 P3.1/TXD/T2, 23 P3.2/INT0, 24 P3.3/INT1, 25 P3.4/T0/T1CLKO/ECI_2, 26 P3.5/T1/T0CLKO/CCP0_2, 27 P3.6/~{INT2}/RXD_2/CCP1_2, 28 P3.7/~{INT3}/TXD_2/CCP2/CCP2_2, 29 P4.1/MISO_3, 30 P4.2/~{WR}/CCP3, 31 P4.4/~{RD}/CCP4, 32 P2.0/A8/RSTOUT_LOW, 33 P2.1/A9/SCLK_2, 34 P2.2/A10/MISO_2, 35 P2.3/A11/MOSI_2, 36 P2.4/A12/ECI_3/SS_2, 37 P2.5/A13/CCP0_3, 38 P2.6/A14/CCP1_3, 39 P2.7/A15/CCP2_3, 40 P4.5/ALE/CCP5

## STC15W4K60S4_PLCC44
designator U?
footprint PLCC44
pins: 1 P4.6/RXD2_2, 2 P0.0/AD0/RXD3, 3 P0.1/AD1/TXD3, 4 P0.2/AD2/RXD4, 5 P0.3/AD3/TXD4, 6 P0.4/AD4/T4CLKO, 7 P0.5/AD5/T4, 8 P0.6/AD6/T3CLKO, 9 P0.7/AD7/T3, 10 P1.0/ADC0/CCP1/RXD2, 11 P1.1/ADC1/CCP0/TXD2, 12 P4.7/TXD2_2, 13 P1.2/ADC2/SS/ECI/CMPO, 14 P1.3/ADC3/MOSI, 15 P1.4/ADC4/MISO, 16 P1.5/ADC5/SCLK, 17 P1.6/ADC6/RXD_3/XTAL2/MCLKO_2, 18 P1.7/ADC7/TXD_3/XTAL1, 19 P5.4/RST/MCLKO/SS_3/CMP-, 20 VCC, 21 P5.5/CMP+, 22 GND, 23 P4.0/MOSI_3, 24 P3.0/RXD/~{INT4}/T2CLKO, 25 P3.1/TXD/T2, 26 P3.2/INT0, 27 P3.3/INT1, 28 P3.4/T0/T1CLKO/ECI_2, 29 P3.5/T1/T0CLKO/CCP0_2, 30 P3.6/~{INT2}/RXD_2/CCP1_2, 31 P3.7/~{INT3}/TXD_2/CCP2/CCP2_2, 32 P4.1/MISO_3, 33 P4.2/~{WR}/CCP3, 34 P4.3/SCLK_3, 35 P4.4/~{RD}/CCP4, 36 P2.0/A8/RSTOUT_LOW, 37 P2.1/A9/SCLK_2, 38 P2.2/A10/MISO_2, 39 P2.3/A11/MOSI_2, 40 P2.4/A12/ECI_3/SS_2, 41 P2.5/A13/CCP0_3, 42 P2.6/A14/CCP1_3, 43 P2.7/A15/CCP2_3, 44 P4.5/ALE/CCP5